# Altium schematic symbol library 74xx.SchLib: 276 symbols (part 2 of 3)
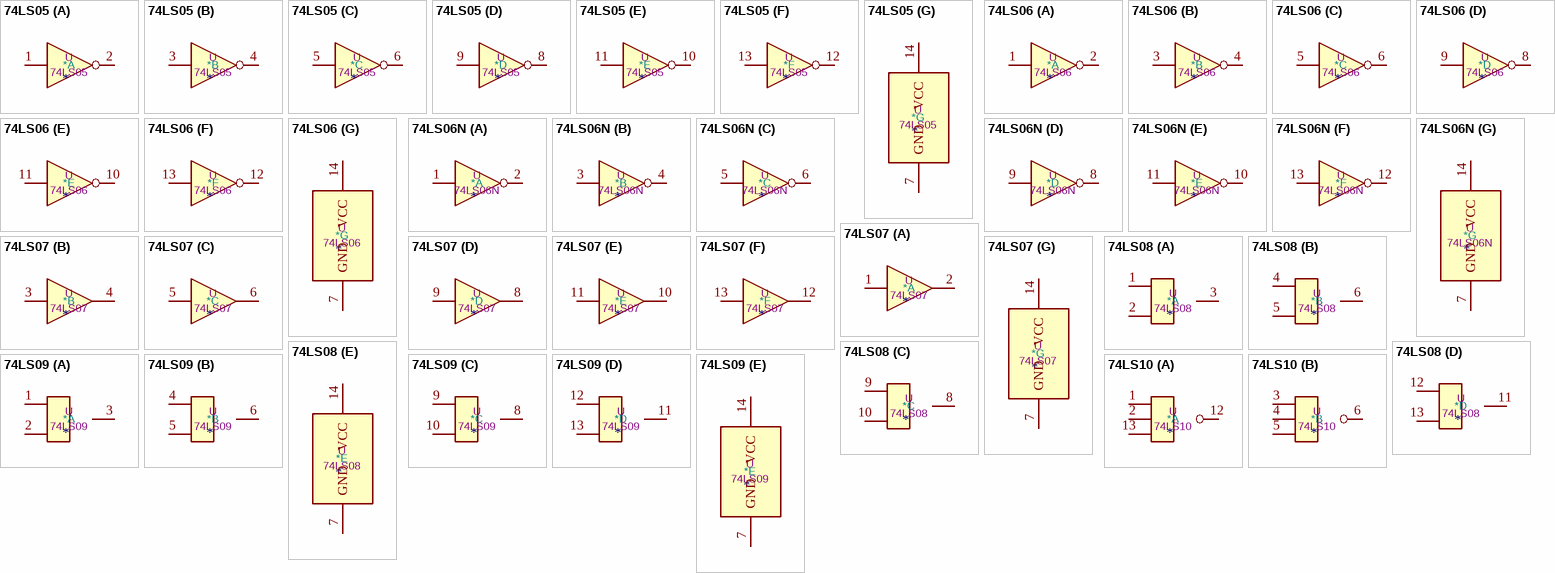
[diagram p15: symbols 74LS05 to 74LS10]

## 74LS06
designator *  value 74LS06  Reference: U
Inverter Open Collect; ki_keywords: TTL not inv OpenCol; ki_fp_filters: DIP*W7.62mm*; Datasheet: http://www.ti.com/lit/gpn/sn74LS06; Description_: Inverter Open Collect
part A pins: 1, 2
part B pins: 3, 4
part C pins: 5, 6
part D pins: 8, 9
part E pins: 10, 11
part F pins: 12, 13
part G pins: 7 GND, 14 VCC

## 74LS06N
designator *  value 74LS06N  Reference: U
Inverter Open Collect; ki_keywords: TTL not inv OpenCol; ki_fp_filters: DIP*W7.62mm*; Datasheet: http://www.ti.com/lit/gpn/sn74LS06N; Description_: Inverter Open Collect
part A pins: 1, 2
part B pins: 3, 4
part C pins: 5, 6
part D pins: 8, 9
part E pins: 10, 11
part F pins: 12, 13
part G pins: 7 GND, 14 VCC

## 74LS07
designator *  value 74LS07  Reference: U
Hex Buffers and Drivers With Open Collector High Voltage Outputs; ki_keywords: TTL hex buffer OpenCol; ki_fp_filters: SOIC*3.9x8.7mm*P1.27mm* TSSOP*4.4x5mm*P0.65mm* DIP*W7.62mm*; Datasheet: www.ti.com/lit/ds/symlink/sn74ls07.pdf; Description_: Hex Buffers and Drivers With Open Collector High Voltage Outputs
part A pins: 1, 2
part B pins: 3, 4
part C pins: 5, 6
part D pins: 8, 9
part E pins: 10, 11
part F pins: 12, 13
part G pins: 7 GND, 14 VCC

## 74LS08
designator *  value 74LS08  Reference: U
Quad And2; ki_keywords: TTL and2; ki_fp_filters: DIP*W7.62mm*; Datasheet: http://www.ti.com/lit/gpn/sn74LS08; Description_: Quad And2
part A pins: 1, 2, 3
part B pins: 4, 5, 6
part C pins: 8, 9, 10
part D pins: 11, 12, 13
part E pins: 7 GND, 14 VCC
1 alternate drawing of the same symbol

## 74LS09
designator *  value 74LS09  Reference: U
Quad 2-input AND Open Collect; ki_keywords: TTL and2 OpenCol; ki_fp_filters: DIP*W7.62mm*; Datasheet: http://www.ti.com/lit/gpn/sn74LS09; Description_: Quad 2-input AND Open Collect
part A pins: 1, 2, 3
part B pins: 4, 5, 6
part C pins: 8, 9, 10
part D pins: 11, 12, 13
part E pins: 7 GND, 14 VCC
1 alternate drawing of the same symbol

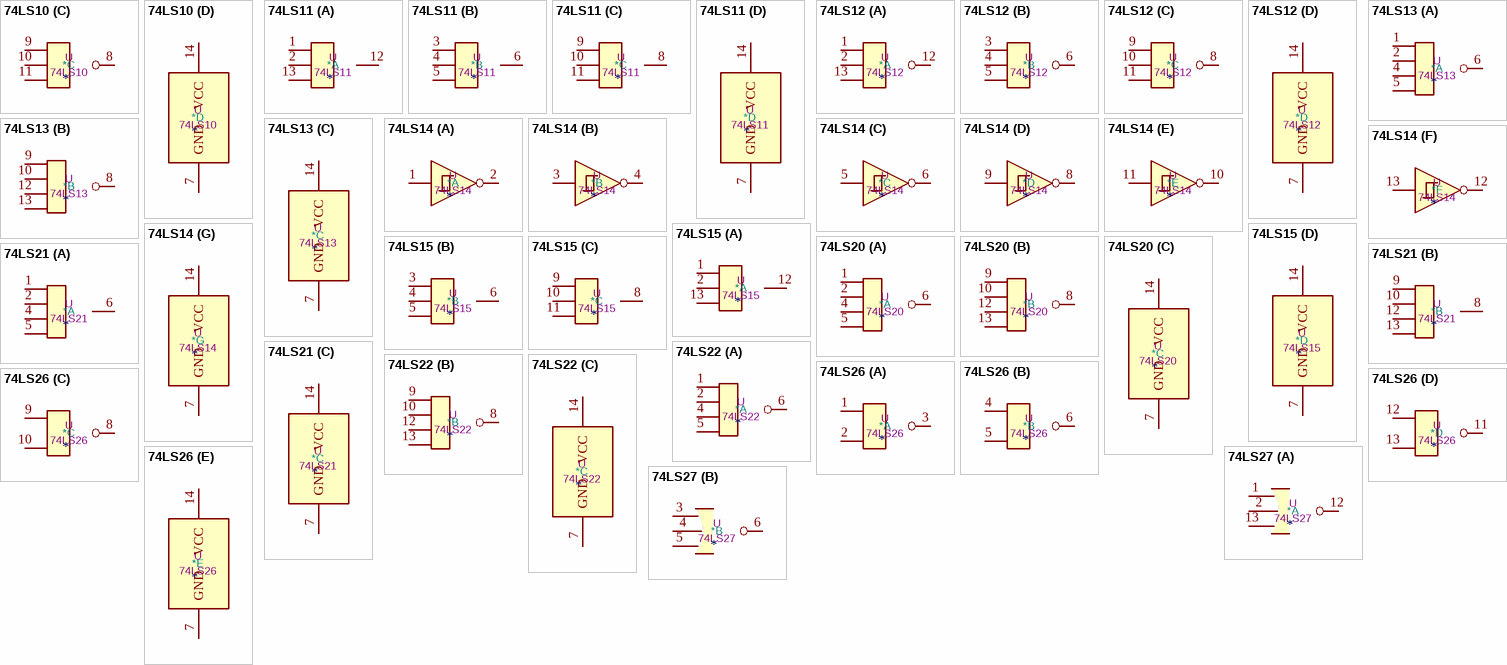
[diagram p6: symbols 74LS10 to 74LS27]

## 74LS10
designator *  value 74LS10  Reference: U
Triple 3-input NAND; ki_keywords: TTL Nand3; ki_fp_filters: DIP*W7.62mm*; Datasheet: http://www.ti.com/lit/gpn/sn74LS10; Description_: Triple 3-input NAND
part A pins: 1, 2, 12, 13
part B pins: 3, 4, 5, 6
part C pins: 8, 9, 10, 11
part D pins: 7 GND, 14 VCC
1 alternate drawing of the same symbol

## 74LS11
designator *  value 74LS11  Reference: U
Triple 3-input AND; ki_keywords: TTL And3; ki_fp_filters: DIP*W7.62mm*; Datasheet: http://www.ti.com/lit/gpn/sn74LS11; Description_: Triple 3-input AND
part A pins: 1, 2, 12, 13
part B pins: 3, 4, 5, 6
part C pins: 8, 9, 10, 11
part D pins: 7 GND, 14 VCC
1 alternate drawing of the same symbol

## 74LS12
designator *  value 74LS12  Reference: U
Triple 3-input NAND Open Collector; ki_keywords: TTL Nand3 OpenCol; ki_fp_filters: DIP*W7.62mm*; Datasheet: http://www.ti.com/lit/gpn/sn74LS12; Description_: Triple 3-input NAND Open Collector
part A pins: 1, 2, 12, 13
part B pins: 3, 4, 5, 6
part C pins: 8, 9, 10, 11
part D pins: 7 GND, 14 VCC
1 alternate drawing of the same symbol

## 74LS13
designator *  value 74LS13  Reference: U
Dual 4-input NAND Schmitt trigger; ki_keywords: TTL Nand4; ki_fp_filters: DIP*W7.62mm*; Datasheet: http://www.ti.com/lit/gpn/sn74LS13; Description_: Dual 4-input NAND Schmitt trigger
part A pins: 1, 2, 4, 5, 6
part B pins: 8, 9, 10, 12, 13
part C pins: 7 GND, 14 VCC
1 alternate drawing of the same symbol

## 74LS14
designator *  value 74LS14  Reference: U
Hex inverter schmitt trigger; ki_keywords: TTL not inverter; ki_fp_filters: DIP*W7.62mm*; Datasheet: http://www.ti.com/lit/gpn/sn74LS14; Description_: Hex inverter schmitt trigger
part A pins: 1, 2
part B pins: 3, 4
part C pins: 5, 6
part D pins: 8, 9
part E pins: 10, 11
part F pins: 12, 13
part G pins: 7 GND, 14 VCC

## 74LS15
designator *  value 74LS15  Reference: U
Triple 3-input AND; ki_keywords: TTL And3; ki_fp_filters: DIP*W7.62mm*; Datasheet: http://www.ti.com/lit/gpn/sn74LS15; Description_: Triple 3-input AND
part A pins: 1, 2, 12, 13
part B pins: 3, 4, 5, 6
part C pins: 8, 9, 10, 11
part D pins: 7 GND, 14 VCC
1 alternate drawing of the same symbol

## 74LS20
designator *  value 74LS20  Reference: U
Dual 4-input NAND; ki_keywords: TTL Nand4; ki_fp_filters: DIP?12*; Datasheet: http://www.ti.com/lit/gpn/sn74LS20; Description_: Dual 4-input NAND
part A pins: 1, 2, 4, 5, 6
part B pins: 8, 9, 10, 12, 13
part C pins: 7 GND, 14 VCC
1 alternate drawing of the same symbol

## 74LS21
designator *  value 74LS21  Reference: U
Dual 4-input AND; ki_keywords: TTL And4; ki_fp_filters: DIP?14*; Datasheet: http://www.ti.com/lit/gpn/sn74LS21; Description_: Dual 4-input AND
part A pins: 1, 2, 4, 5, 6
part B pins: 8, 9, 10, 12, 13
part C pins: 7 GND, 14 VCC
1 alternate drawing of the same symbol

## 74LS22
designator *  value 74LS22  Reference: U
Dual 4-input NAND Open Collector; ki_keywords: TTL Nand4 OpenColl; ki_fp_filters: DIP?12*; Datasheet: http://www.ti.com/lit/gpn/sn74LS22; Description_: Dual 4-input NAND Open Collector
part A pins: 1, 2, 4, 5, 6
part B pins: 8, 9, 10, 12, 13
part C pins: 7 GND, 14 VCC
1 alternate drawing of the same symbol

## 74LS26
designator *  value 74LS26  Reference: U
Quad 2-input NAND Open collector; ki_keywords: TTL Nand2 OpenCol; ki_fp_filters: DIP*W7.62mm*; Datasheet: http://www.ti.com/lit/gpn/sn74LS26; Description_: Quad 2-input NAND Open collector
part A pins: 1, 2, 3
part B pins: 4, 5, 6
part C pins: 8, 9, 10
part D pins: 11, 12, 13
part E pins: 7 GND, 14 VCC
1 alternate drawing of the same symbol

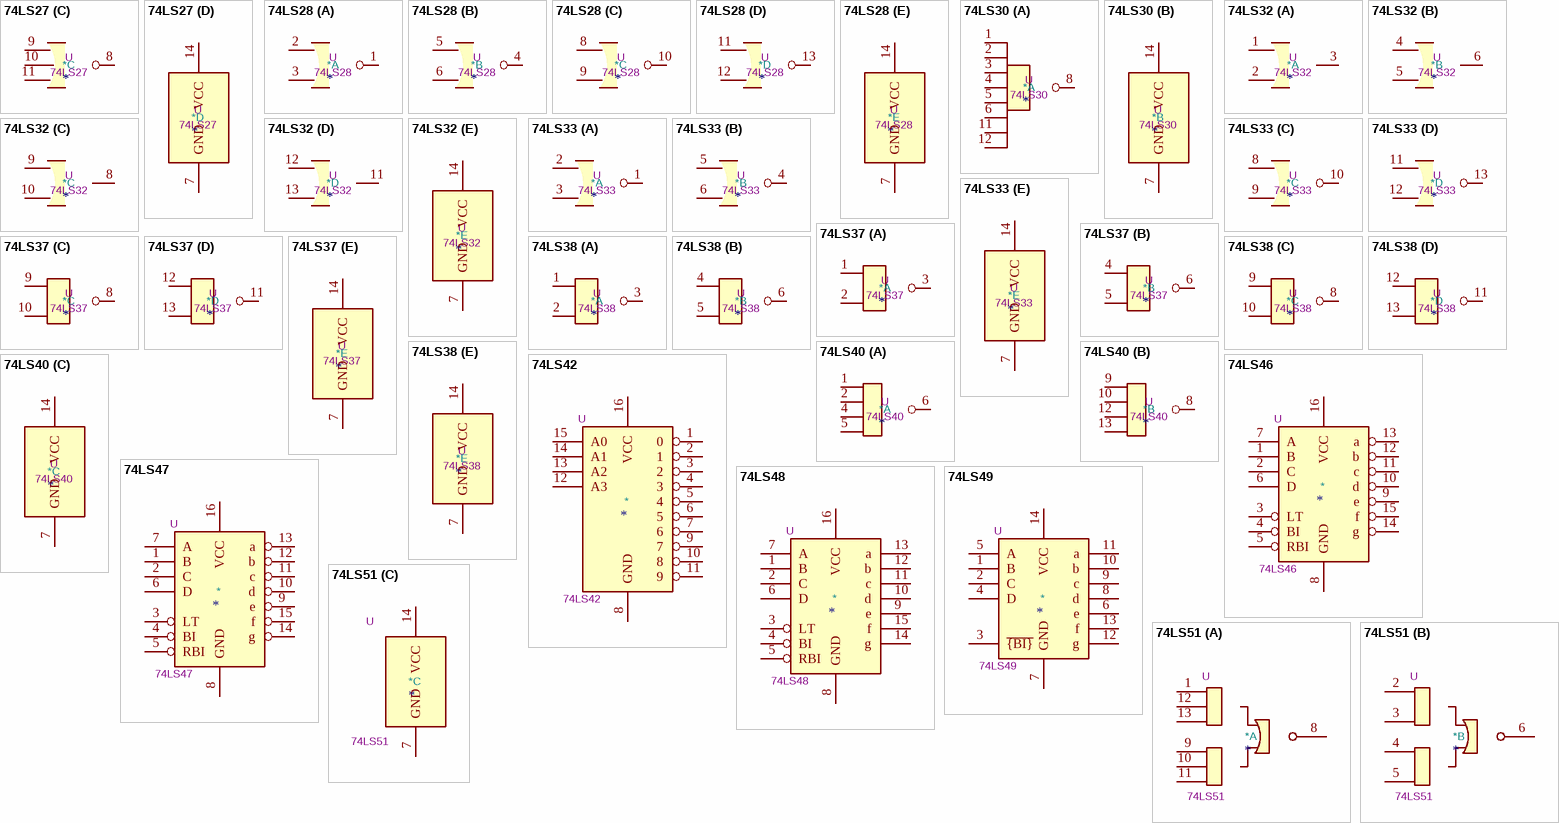
[diagram p7: symbols 74LS27 to 74LS51]

## 74LS27
designator *  value 74LS27  Reference: U
Triple 3-input NOR; ki_keywords: TTL Nor3; ki_fp_filters: DIP*W7.62mm*; Datasheet: http://www.ti.com/lit/gpn/sn74LS27; Description_: Triple 3-input NOR
part A pins: 1, 2, 12, 13
part B pins: 3, 4, 5, 6
part C pins: 8, 9, 10, 11
part D pins: 7 GND, 14 VCC
1 alternate drawing of the same symbol

## 74LS28
designator *  value 74LS28  Reference: U
quad 2-input NOR buffer NRND; ki_keywords: TTL Nor2 Buffer; ki_fp_filters: SO14* DIP*W7.62mm*; Datasheet: http://eeshop.unl.edu/pdf/74ls28.pdf; Description_: quad 2-input NOR buffer NRND
part A pins: 1, 2, 3
part B pins: 4, 5, 6
part C pins: 8, 9, 10
part D pins: 11, 12, 13
part E pins: 7 GND, 14 VCC
1 alternate drawing of the same symbol

## 74LS30
designator *  value 74LS30  Reference: U
8-input NAND; ki_keywords: TTL Nand8; ki_fp_filters: DIP*W7.62mm*; Datasheet: http://www.ti.com/lit/gpn/sn74LS30; Description_: 8-input NAND
part A pins: 1, 2, 3, 4, 5, 6, 8, 11, 12
part B pins: 7 GND, 14 VCC
1 alternate drawing of the same symbol

## 74LS32
designator *  value 74LS32  Reference: U
Quad 2-input OR; ki_keywords: TTL Or2; ki_fp_filters: DIP?14*; Datasheet: http://www.ti.com/lit/gpn/sn74LS32; Description_: Quad 2-input OR
part A pins: 1, 2, 3
part B pins: 4, 5, 6
part C pins: 8, 9, 10
part D pins: 11, 12, 13
part E pins: 7 GND, 14 VCC
1 alternate drawing of the same symbol

## 74LS33
designator *  value 74LS33  Reference: U
Quad 2-input NOR, Open collector; ki_keywords: TTL Nor2 OpenColl; ki_fp_filters: DIP*W7.62mm*; Datasheet: http://www.ti.com/lit/gpn/sn74LS33; Description_: Quad 2-input NOR, Open collector
part A pins: 1, 2, 3
part B pins: 4, 5, 6
part C pins: 8, 9, 10
part D pins: 11, 12, 13
part E pins: 7 GND, 14 VCC
1 alternate drawing of the same symbol

## 74LS37
designator *  value 74LS37  Reference: U
quad 2-input NAND buffer; ki_keywords: TTL nand 2-input buffer; ki_fp_filters: DIP*W7.62mm* SO14*; Datasheet: http://www.ti.com/lit/gpn/sn74ls37; Description_: quad 2-input NAND buffer
part A pins: 1, 2, 3
part B pins: 4, 5, 6
part C pins: 8, 9, 10
part D pins: 11, 12, 13
part E pins: 7 GND, 14 VCC
1 alternate drawing of the same symbol

## 74LS38
designator *  value 74LS38  Reference: U
Quad Buffer 2-input NAND Open collector; ki_keywords: TTL Nand2 OpenCol Buffer; ki_fp_filters: DIP*W7.62mm*; Datasheet: http://www.ti.com/lit/gpn/sn74LS38; Description_: Quad Buffer 2-input NAND Open collector
part A pins: 1, 2, 3
part B pins: 4, 5, 6
part C pins: 8, 9, 10
part D pins: 11, 12, 13
part E pins: 7 GND, 14 VCC
1 alternate drawing of the same symbol

## 74LS40
designator *  value 74LS40  Reference: U
Dual 4-input NAND; ki_keywords: TTL Nand4; ki_fp_filters: DIP?12*; Datasheet: http://www.ti.com/lit/gpn/sn74LS40; Description_: Dual 4-input NAND
part A pins: 1, 2, 4, 5, 6
part B pins: 8, 9, 10, 12, 13
part C pins: 7 GND, 14 VCC
1 alternate drawing of the same symbol

## 74LS42
designator *  value 74LS42  Reference: U
4 to 10 line Decoder; ki_keywords: TTL DECOD DECOD10; ki_fp_filters: DIP?16*; Datasheet: http://www.ti.com/lit/gpn/sn74LS42; Description_: 4 to 10 line Decoder
pins: 1 0, 2 1, 3 2, 4 3, 5 4, 6 5, 7 6, 8 GND, 9 7, 10 8, 11 9, 12 A3, 13 A2, 14 A1, 15 A0, 16 VCC

## 74LS46
designator *  value 74LS46  Reference: U
BCD to 7-segment Driver, Open Collector, 15V outputs; ki_keywords: TTL DECOD DECOD7 OpenCol; ki_fp_filters: DIP?16*; Datasheet: http://www.ti.com/lit/gpn/sn74LS46; Description_: BCD to 7-segment Driver, Open Collector, 15V outputs
pins: 1 B, 2 C, 3 LT, 4 BI, 5 RBI, 6 D, 7 A, 8 GND, 9 e, 10 d, 11 c, 12 b, 13 a, 14 g, 15 f, 16 VCC

## 74LS47
designator *  value 74LS47  Reference: U
BCD to 7-segment Driver, Open Collector, 30V outputs; ki_keywords: TTL DECOD DECOD7 OpenCol; ki_fp_filters: DIP?16*; Datasheet: http://www.ti.com/lit/gpn/sn74LS47; Description_: BCD to 7-segment Driver, Open Collector, 30V outputs
pins: 1 B, 2 C, 3 LT, 4 BI, 5 RBI, 6 D, 7 A, 8 GND, 9 e, 10 d, 11 c, 12 b, 13 a, 14 g, 15 f, 16 VCC

## 74LS48
designator *  value 74LS48  Reference: U
BCD to 7-segment Decoder/driver, Active High outputs; ki_keywords: TTL DECOD DECOD7; ki_fp_filters: DIP?16*; Datasheet: http://www.ti.com/lit/gpn/sn74LS48; Description_: BCD to 7-segment Decoder/driver, Active High outputs
pins: 1 B, 2 C, 3 LT, 4 BI, 5 RBI, 6 D, 7 A, 8 GND, 9 e, 10 d, 11 c, 12 b, 13 a, 14 g, 15 f, 16 VCC

## 74LS49
designator *  value 74LS49  Reference: U
BCD to 7-segment decoder/driver, Open collector; ki_keywords: TTL DECOD DECOD7 OpenCol; ki_fp_filters: DIP*W7.62mm*; Datasheet: http://www.ti.com/lit/gpn/sn74ls47; Description_: BCD to 7-segment decoder/driver, Open collector
pins: 1 B, 2 C, 3 ~{{BI}}, 4 D, 5 A, 6 e, 7 GND, 8 d, 9 c, 10 b, 11 a, 12 g, 13 f, 14 VCC

## 74LS51
designator *  value 74LS51  Reference: U
Dual 3- and 2-input AND-NOR ( S = /(AB[C] + DE[F]) ); ki_keywords: TTL ANDNOR; ki_fp_filters: DIP*W7.62mm*; Datasheet: http://www.ti.com/lit/ds/symlink/sn74ls51.pdf; Description_: Dual 3- and 2-input AND-NOR ( S = /(AB[C] + DE[F]) )
part A pins: 1, 8, 9, 10, 11, 12, 13
part B pins: 2, 3, 4, 5, 6
part C pins: 7 GND, 14 VCC

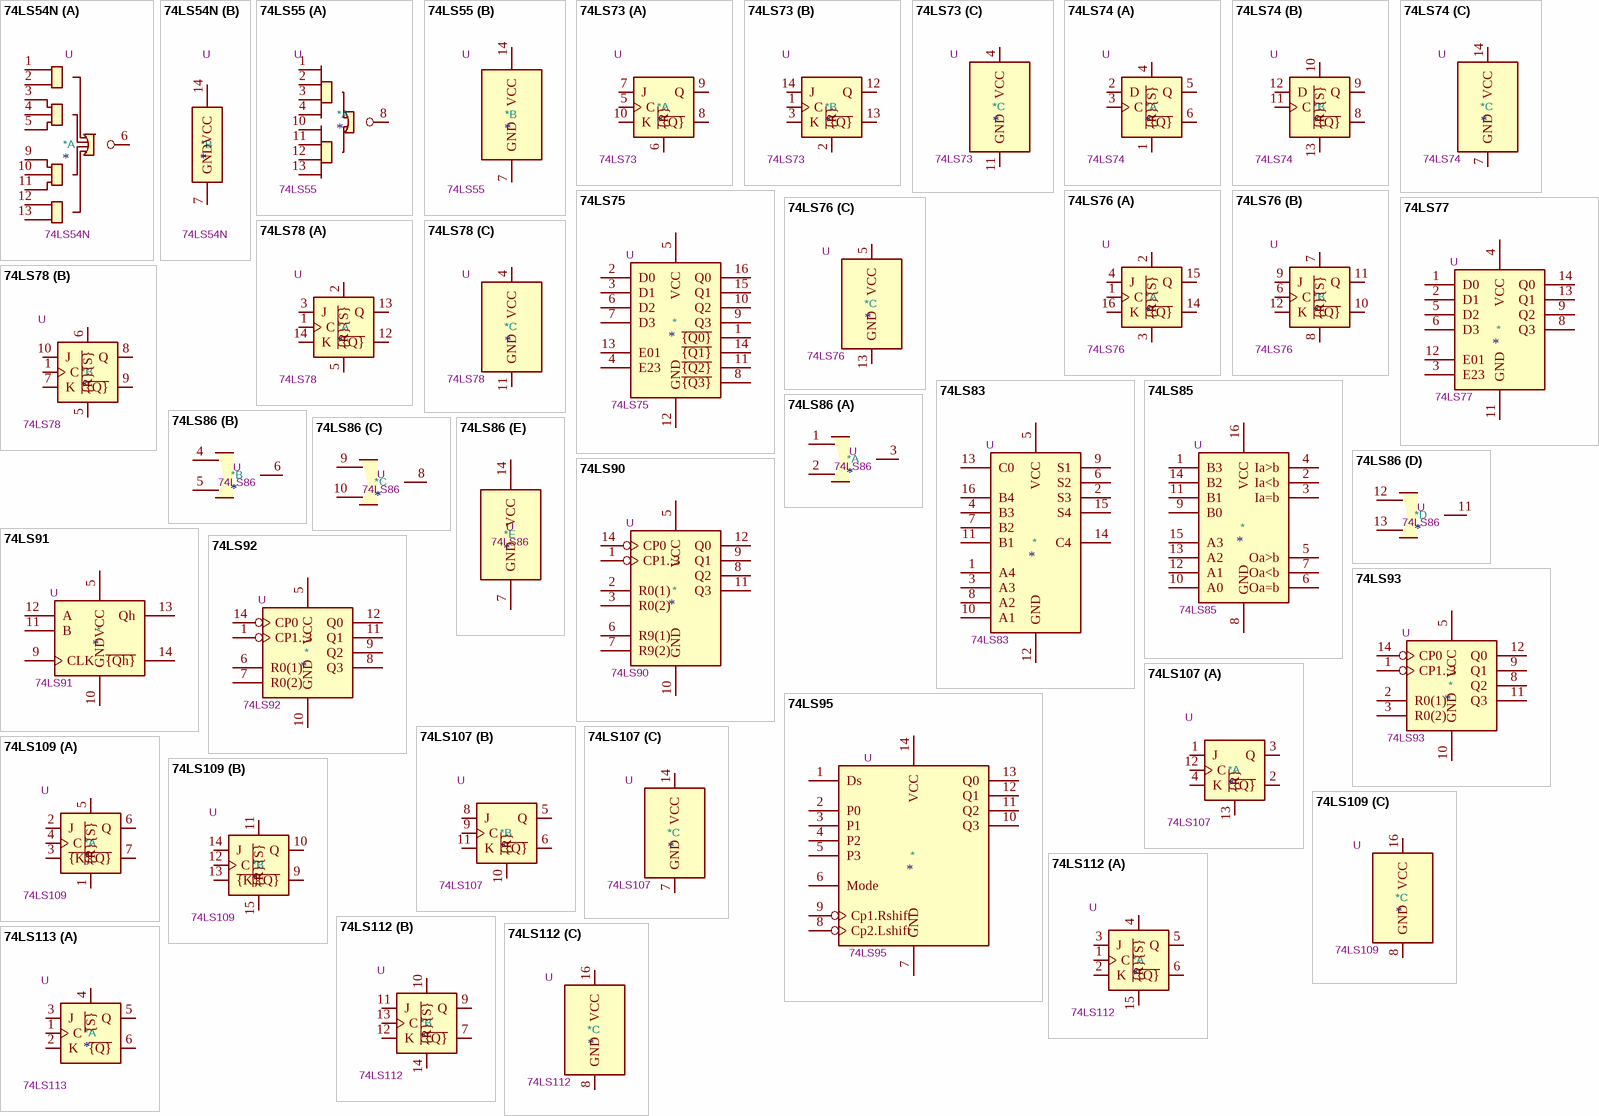
[diagram p8: symbols 74LS54N to 74LS113]

## 74LS54N
designator *  value 74LS54N  Reference: U
And-Nor (Y = /(AB + CDE + FGH + IJ) ), DIP-14; ki_keywords: TTL ANDNOR; ki_fp_filters: DIP*W7.62mm*; Datasheet: https://www.ti.com/lit/ds/symlink/sn54ls54.pdf; Description_: And-Nor (Y = /(AB + CDE + FGH + IJ) ), DIP-14
part A pins: 1, 2, 3, 4, 5, 6, 9, 10, 11, 12, 13
part B pins: 7 GND, 14 VCC

## 74LS55
designator *  value 74LS55  Reference: U
AND-NOR ( S = / (ABCD + EFGH) ); ki_keywords: TTL ANDNOR; ki_fp_filters: DIP*W7.62mm*; Datasheet: http://www.ti.com/lit/gpn/sn74LS55; Description_: AND-NOR ( S = / (ABCD + EFGH) )
part A pins: 1, 2, 3, 4, 8, 10, 11, 12, 13
part B pins: 7 GND, 14 VCC

## 74LS73
designator *  value 74LS73  Reference: U
Dual JK Flip-Flop, reset; ki_keywords: TTL JK JKFF; ki_fp_filters: DIP*W7.62mm*; Datasheet: http://www.ti.com/lit/gpn/sn74LS73; Description_: Dual JK Flip-Flop, reset
part A pins: 5 C, 6 ~{{R}}, 7 J, 8 ~{{Q}}, 9 Q, 10 K
part B pins: 1 C, 2 ~{{R}}, 3 K, 12 Q, 13 ~{{Q}}, 14 J
part C pins: 4 VCC, 11 GND

## 74LS74
designator *  value 74LS74  Reference: U
Dual D Flip-flop, Set & Reset; ki_keywords: TTL DFF; ki_fp_filters: DIP*W7.62mm*; Datasheet: 74xx/74hc_hct74.pdf; Description_: Dual D Flip-flop, Set & Reset
part A pins: 1 ~{{R}}, 2 D, 3 C, 4 ~{{S}}, 5 Q, 6 ~{{Q}}
part B pins: 8 ~{{Q}}, 9 Q, 10 ~{{S}}, 11 C, 12 D, 13 ~{{R}}
part C pins: 7 GND, 14 VCC

## 74LS75
designator *  value 74LS75  Reference: U
4-bit Latch; ki_keywords: TTL DFF Latch; ki_fp_filters: DIP?16*; Datasheet: http://www.ti.com/lit/gpn/sn74LS75; Description_: 4-bit Latch
pins: 1 ~{{Q0}}, 2 D0, 3 D1, 4 E23, 5 VCC, 6 D2, 7 D3, 8 ~{{Q3}}, 9 Q3, 10 Q2, 11 ~{{Q2}}, 12 GND, 13 E01, 14 ~{{Q1}}, 15 Q1, 16 Q0

## 74LS76
designator *  value 74LS76  Reference: U
Dual JK Flip-flop, Set & Reset; ki_keywords: TTL JK JKFF; ki_fp_filters: DIP?16*; Datasheet: http://www.ti.com/lit/gpn/sn74LS76; Description_: Dual JK Flip-flop, Set & Reset
part A pins: 1 C, 2 ~{{S}}, 3 ~{{R}}, 4 J, 14 ~{{Q}}, 15 Q, 16 K
part B pins: 6 C, 7 ~{{S}}, 8 ~{{R}}, 9 J, 10 ~{{Q}}, 11 Q, 12 K
part C pins: 5 VCC, 13 GND

## 74LS77
designator *  value 74LS77  Reference: U
4-bit Latch; ki_keywords: TTL DFF Latch; ki_fp_filters: DIP?12*; Datasheet: http://www.ti.com/lit/gpn/sn74LS77; Description_: 4-bit Latch
pins: 1 D0, 2 D1, 3 E23, 4 VCC, 5 D2, 6 D3, 8 Q3, 9 Q2, 11 GND, 12 E01, 13 Q1, 14 Q0

## 74LS78
designator *  value 74LS78  Reference: U
Dual JK Flip-flop, Set, Common clock & reset; ki_keywords: TTL JK JKFF; ki_fp_filters: DIP*W7.62mm*; Datasheet: http://www.ti.com/lit/gpn/sn74LS78; Description_: Dual JK Flip-flop, Set, Common clock & reset
part A pins: 1 C, 2 ~{{S}}, 3 J, 5 ~{{R}}, 12 ~{{Q}}, 13 Q, 14 K
part B pins: 1 C, 5 ~{{R}}, 6 ~{{S}}, 7 K, 8 Q, 9 ~{{Q}}, 10 J
part C pins: 4 VCC, 11 GND

## 74LS83
designator *  value 74LS83  Reference: U
4-bit Full Adder; ki_keywords: TTL ADD ARITH ALU; ki_fp_filters: DIP?16*; Datasheet: http://www.ti.com/lit/gpn/sn74LS83; Description_: 4-bit Full Adder
pins: 1 A4, 2 S3, 3 A3, 4 B3, 5 VCC, 6 S2, 7 B2, 8 A2, 9 S1, 10 A1, 11 B1, 12 GND, 13 C0, 14 C4, 15 S4, 16 B4

## 74LS85
designator *  value 74LS85  Reference: U
4-bit Comparator; ki_keywords: TTL COMP ARITH; ki_fp_filters: DIP?16*; Datasheet: http://www.ti.com/lit/gpn/sn74LS85; Description_: 4-bit Comparator
pins: 1 B3, 2 Ia<b, 3 Ia=b, 4 Ia>b, 5 Oa>b, 6 Oa=b, 7 Oa<b, 8 GND, 9 B0, 10 A0, 11 B1, 12 A1, 13 A2, 14 B2, 15 A3, 16 VCC

## 74LS86
designator *  value 74LS86  Reference: U
Quad 2-input XOR; ki_keywords: TTL XOR2; ki_fp_filters: DIP*W7.62mm*; Datasheet: 74xx/74ls86.pdf; Description_: Quad 2-input XOR
part A pins: 1, 2, 3
part B pins: 4, 5, 6
part C pins: 8, 9, 10
part D pins: 11, 12, 13
part E pins: 7 GND, 14 VCC

## 74LS90
designator *  value 74LS90  Reference: U
BCD Counter ( div 2 & div 5 ); ki_keywords: TTL CNT CNT4; ki_fp_filters: DIP?12*; Datasheet: http://www.ti.com/lit/gpn/sn74LS90; Description_: BCD Counter ( div 2 & div 5 )
pins: 1 CP1..3, 2 R0(1), 3 R0(2), 5 VCC, 6 R9(1), 7 R9(2), 8 Q2, 9 Q1, 10 GND, 11 Q3, 12 Q0, 14 CP0

## 74LS91
designator *  value 74LS91  Reference: U
8-bit Serial Register; ki_keywords: TTL SR SR8; ki_fp_filters: DIP*W7.62mm*; Datasheet: http://www.ti.com/lit/gpn/sn74LS91; Description_: 8-bit Serial Register
pins: 5 VCC, 9 CLK, 10 GND, 11 B, 12 A, 13 Qh, 14 ~{{Qh}}

## 74LS92
designator *  value 74LS92  Reference: U
Divide by 12 counter; ki_keywords: TTL CNT CNT4; ki_fp_filters: DIP*W7.62mm*; Datasheet: http://www.ti.com/lit/gpn/sn74LS92; Description_: Divide by 12 counter
pins: 1 CP1..3, 5 VCC, 6 R0(1), 7 R0(2), 8 Q3, 9 Q2, 10 GND, 11 Q1, 12 Q0, 14 CP0

## 74LS93
designator *  value 74LS93  Reference: U
Divide by 2 & 8 counter; ki_keywords: TTL CNT CNT4; ki_fp_filters: DIP*W7.62mm*; Datasheet: http://www.ti.com/lit/gpn/sn74LS93; Description_: Divide by 2 & 8 counter
pins: 1 CP1..3, 2 R0(1), 3 R0(2), 5 VCC, 8 Q2, 9 Q1, 10 GND, 11 Q3, 12 Q0, 14 CP0

## 74LS95
designator *  value 74LS95  Reference: U
Shift Register 5-bit (in/out); ki_keywords: TTL SR SR4; ki_fp_filters: DIP*W7.62mm*; Datasheet: http://www.ti.com/lit/gpn/sn74LS95; Description_: Shift Register 5-bit (in/out)
pins: 1 Ds, 2 P0, 3 P1, 4 P2, 5 P3, 6 Mode, 7 GND, 8 Cp2.Lshift, 9 Cp1.Rshift, 10 Q3, 11 Q2, 12 Q1, 13 Q0, 14 VCC

## 74LS107
designator *  value 74LS107  Reference: U
Dual JK Flip-Flop, reset; ki_keywords: TTL JK; ki_fp_filters: DIP*W7.62mm*; Datasheet: http://www.ti.com/lit/gpn/sn74LS107; Description_: Dual JK Flip-Flop, reset
part A pins: 1 J, 2 ~{{Q}}, 3 Q, 4 K, 12 C, 13 ~{{R}}
part B pins: 5 Q, 6 ~{{Q}}, 8 J, 9 C, 10 ~{{R}}, 11 K
part C pins: 7 GND, 14 VCC

## 74LS109
designator *  value 74LS109  Reference: U
Dual JK Flip-Flop, Set & Reset; ki_keywords: TTL JK; ki_fp_filters: DIP*W7.62mm*; Datasheet: http://www.ti.com/lit/gpn/sn74LS109; Description_: Dual JK Flip-Flop, Set & Reset
part A pins: 1 ~{{R}}, 2 J, 3 ~{{K}}, 4 C, 5 ~{{S}}, 6 Q, 7 ~{{Q}}
part B pins: 9 ~{{Q}}, 10 Q, 11 ~{{S}}, 12 C, 13 ~{{K}}, 14 J, 15 ~{{R}}
part C pins: 8 GND, 16 VCC

## 74LS112
designator *  value 74LS112  Reference: U
dual JK Flip-Flop, Set & Reset; ki_keywords: TTL JK; ki_fp_filters: DIP?16*; Datasheet: http://www.ti.com/lit/gpn/sn74LS112; Description_: dual JK Flip-Flop, Set & Reset
part A pins: 1 C, 2 K, 3 J, 4 ~{{S}}, 5 Q, 6 ~{{Q}}, 15 ~{{R}}
part B pins: 7 ~{{Q}}, 9 Q, 10 ~{{S}}, 11 J, 12 K, 13 C, 14 ~{{R}}
part C pins: 8 GND, 16 VCC

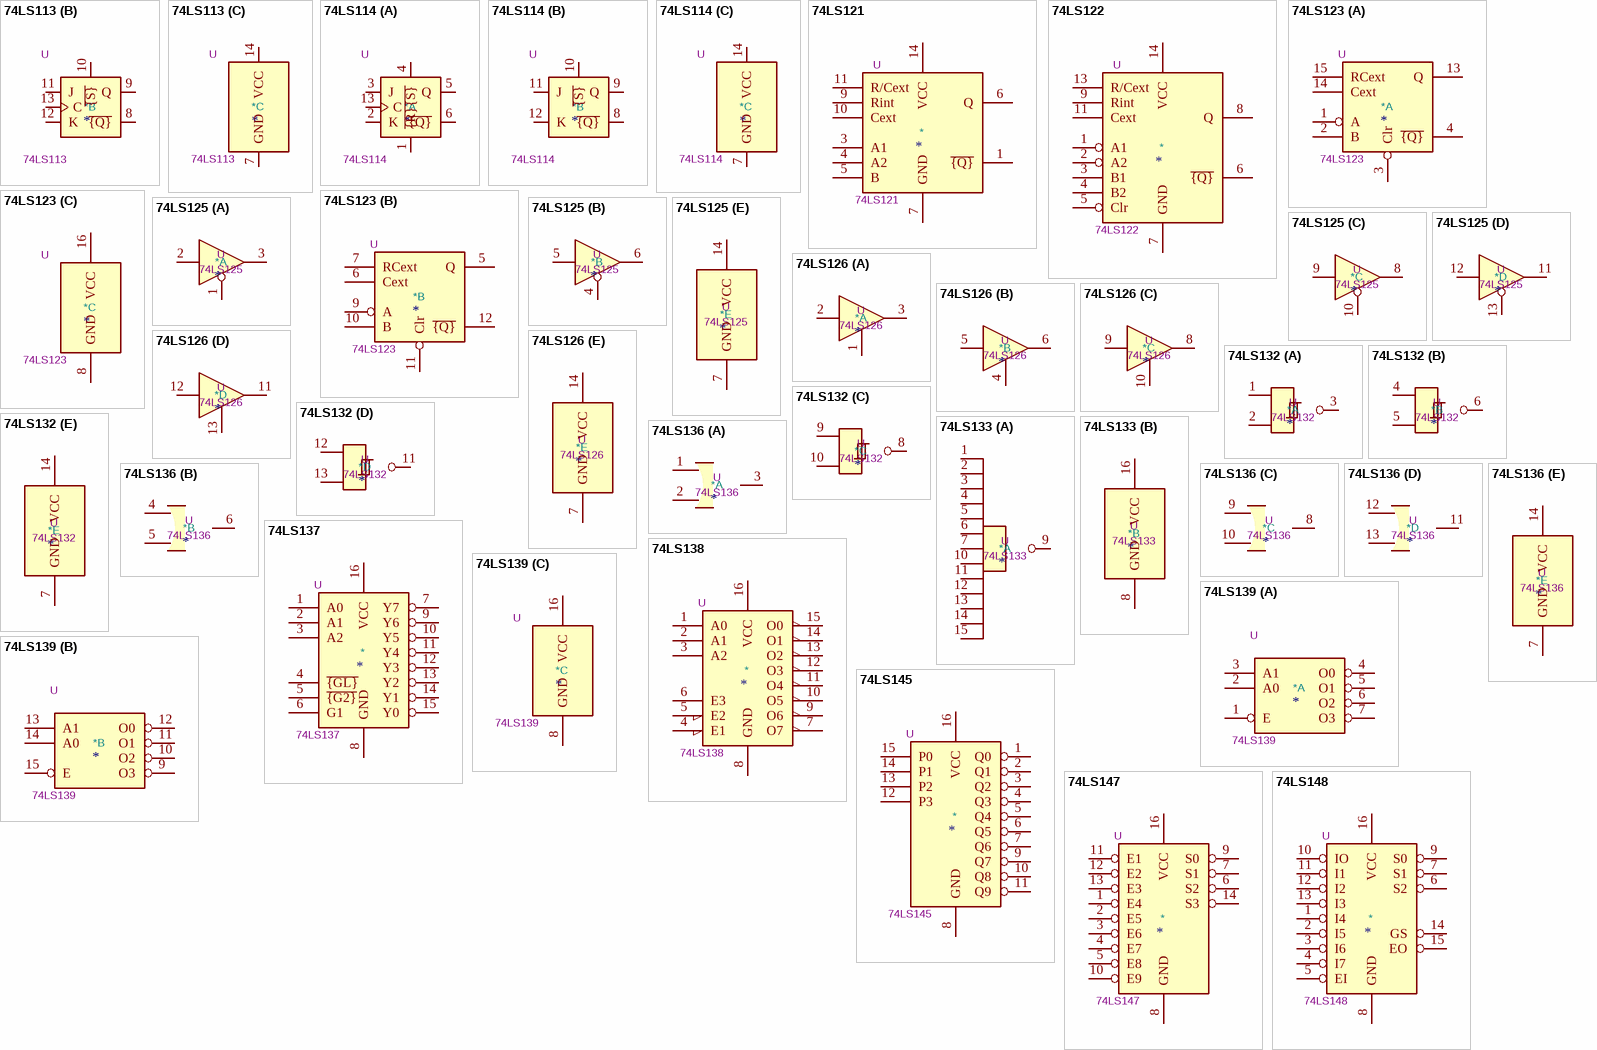
[diagram p9: symbols 74LS113 to 74LS148]

## 74LS113
designator *  value 74LS113  Reference: U
dual JK flip-flop, Set; ki_keywords: TTL JK; ki_fp_filters: DIP*W7.62mm*; Datasheet: http://www.ti.com/lit/gpn/sn74LS113; Description_: dual JK flip-flop, Set
part A pins: 1 C, 2 K, 3 J, 4 ~{{S}}, 5 Q, 6 ~{{Q}}
part B pins: 8 ~{{Q}}, 9 Q, 10 ~{{S}}, 11 J, 12 K, 13 C
part C pins: 7 GND, 14 VCC

## 74LS114
designator *  value 74LS114  Reference: U
Dual JK flip-flop, common Clock & Reset, Set; ki_keywords: TTL JK; ki_fp_filters: DIP*W7.62mm*; Datasheet: http://www.ti.com/lit/gpn/sn74LS114; Description_: Dual JK flip-flop, common Clock & Reset, Set
part A pins: 1 ~{{R}}, 2 K, 3 J, 4 ~{{S}}, 5 Q, 6 ~{{Q}}, 13 C
part B pins: 8 ~{{Q}}, 9 Q, 10 ~{{S}}, 11 J, 12 K
part C pins: 7 GND, 14 VCC

## 74LS121
designator *  value 74LS121  Reference: U
monostable multivibrator with Schmitt-trigger inputs; ki_fp_filters: DIP*W7.62mm*; Datasheet: http://www.ti.com/lit/gpn/sn74121; Description_: monostable multivibrator with Schmitt-trigger inputs; ki_keywords: monostable
pins: 1 ~{{Q}}, 3 A1, 4 A2, 5 B, 6 Q, 7 GND, 9 Rint, 10 Cext, 11 R/Cext, 14 VCC

## 74LS122
designator *  value 74LS122  Reference: U
Retriggerable Monostable; ki_keywords: TTL monostable; ki_fp_filters: DIP*W7.62mm*; Datasheet: http://www.ti.com/lit/gpn/sn74LS122; Description_: Retriggerable Monostable
pins: 1 A1, 2 A2, 3 B1, 4 B2, 5 Clr, 6 ~{{Q}}, 7 GND, 8 Q, 9 Rint, 11 Cext, 13 R/Cext, 14 VCC

## 74LS123
designator *  value 74LS123  Reference: U
Dual retriggerable Monostable; ki_keywords: TTL monostable; ki_fp_filters: DIP?16*; Datasheet: http://www.ti.com/lit/gpn/sn74LS123; Description_: Dual retriggerable Monostable
part A pins: 1 A, 2 B, 3 Clr, 4 ~{{Q}}, 13 Q, 14 Cext, 15 RCext
part B pins: 5 Q, 6 Cext, 7 RCext, 9 A, 10 B, 11 Clr, 12 ~{{Q}}
part C pins: 8 GND, 16 VCC

## 74LS125
designator *  value 74LS125  Reference: U
Quad buffer 3-State outputs; ki_keywords: TTL buffer 3State; ki_fp_filters: DIP*W7.62mm*; Datasheet: http://www.ti.com/lit/gpn/sn74LS125; Description_: Quad buffer 3-State outputs
part A pins: 1, 2, 3
part B pins: 4, 5, 6
part C pins: 8, 9, 10
part D pins: 11, 12, 13
part E pins: 7 GND, 14 VCC

## 74LS126
designator *  value 74LS126  Reference: U
Quad buffer 3-State outputs; ki_keywords: TTL Buffer 3State; ki_fp_filters: DIP*W7.62mm*; Datasheet: http://www.ti.com/lit/gpn/sn74LS126; Description_: Quad buffer 3-State outputs
part A pins: 1, 2, 3
part B pins: 4, 5, 6
part C pins: 8, 9, 10
part D pins: 11, 12, 13
part E pins: 7 GND, 14 VCC

## 74LS132
designator *  value 74LS132  Reference: U
Quad 2-input NAND Schmitt trigger; ki_keywords: TTL Nand2; ki_fp_filters: DIP*W7.62mm*; Datasheet: http://www.ti.com/lit/gpn/sn74LS132; Description_: Quad 2-input NAND Schmitt trigger
part A pins: 1, 2, 3
part B pins: 4, 5, 6
part C pins: 8, 9, 10
part D pins: 11, 12, 13
part E pins: 7 GND, 14 VCC
1 alternate drawing of the same symbol

## 74LS133
designator *  value 74LS133  Reference: U
NAND 13-input; ki_keywords: TTL Nand13; ki_fp_filters: DIP?16*; Datasheet: http://www.ti.com/lit/gpn/sn74LS133; Description_: NAND 13-input
part A pins: 1, 2, 3, 4, 5, 6, 7, 9, 10, 11, 12, 13, 14, 15
part B pins: 8 GND, 16 VCC
1 alternate drawing of the same symbol

## 74LS136
designator *  value 74LS136  Reference: U
Quad 2-input XOR Open Collector; ki_keywords: TTL XOR2 OpenCol; ki_fp_filters: DIP*W7.62mm*; Datasheet: http://www.ti.com/lit/ds/symlink/sn54ls136.pdf; Description_: Quad 2-input XOR Open Collector
part A pins: 1, 2, 3
part B pins: 4, 5, 6
part C pins: 8, 9, 10
part D pins: 11, 12, 13
part E pins: 7 GND, 14 VCC

## 74LS137
designator *  value 74LS137  Reference: U
Decoder 3 to 8, address latches; ki_keywords: TTL DECOD8 DECOD; ki_fp_filters: DIP?16*; Datasheet: http://www.ti.com/lit/gpn/sn74LS137; Description_: Decoder 3 to 8, address latches
pins: 1 A0, 2 A1, 3 A2, 4 ~{{GL}}, 5 ~{{G2}}, 6 G1, 7 Y7, 8 GND, 9 Y6, 10 Y5, 11 Y4, 12 Y3, 13 Y2, 14 Y1, 15 Y0, 16 VCC

## 74LS138
designator *  value 74LS138  Reference: U
Decoder 3 to 8 active low outputs; ki_keywords: TTL DECOD DECOD8; ki_fp_filters: DIP?16*; Datasheet: http://www.ti.com/lit/gpn/sn74LS138; Description_: Decoder 3 to 8 active low outputs
pins: 1 A0, 2 A1, 3 A2, 4 E1, 5 E2, 6 E3, 7 O7, 8 GND, 9 O6, 10 O5, 11 O4, 12 O3, 13 O2, 14 O1, 15 O0, 16 VCC

## 74LS139
designator *  value 74LS139  Reference: U
Dual Decoder 1 of 4, Active low outputs; ki_keywords: TTL DECOD4; ki_fp_filters: DIP?16*; Datasheet: http://www.ti.com/lit/ds/symlink/sn74ls139a.pdf; Description_: Dual Decoder 1 of 4, Active low outputs
part A pins: 1 E, 2 A0, 3 A1, 4 O0, 5 O1, 6 O2, 7 O3
part B pins: 9 O3, 10 O2, 11 O1, 12 O0, 13 A1, 14 A0, 15 E
part C pins: 8 GND, 16 VCC

## 74LS145
designator *  value 74LS145  Reference: U
Decoder 1 to 10, Open Collector; ki_keywords: TTL DECOD10 OpenColl; ki_fp_filters: DIP?16*; Datasheet: http://www.ti.com/lit/gpn/sn74LS145; Description_: Decoder 1 to 10, Open Collector
pins: 1 Q0, 2 Q1, 3 Q2, 4 Q3, 5 Q4, 6 Q5, 7 Q6, 8 GND, 9 Q7, 10 Q8, 11 Q9, 12 P3, 13 P2, 14 P1, 15 P0, 16 VCC

## 74LS147
designator *  value 74LS147  Reference: U
Priority Encoder, 10 to 4; ki_keywords: TTL ENCOD; ki_fp_filters: DIP?16*; Datasheet: http://www.ti.com/lit/gpn/sn74LS147; Description_: Priority Encoder, 10 to 4
pins: 1 E4, 2 E5, 3 E6, 4 E7, 5 E8, 6 S2, 7 S1, 8 GND, 9 S0, 10 E9, 11 E1, 12 E2, 13 E3, 14 S3, 16 VCC

## 74LS148
designator *  value 74LS148  Reference: U
Priority Encoder 3 to 8 cascadable; ki_keywords: TTL ENCOD; ki_fp_filters: DIP?16*; Datasheet: http://www.ti.com/lit/gpn/sn74LS148; Description_: Priority Encoder 3 to 8 cascadable
pins: 1 I4, 2 I5, 3 I6, 4 I7, 5 EI, 6 S2, 7 S1, 8 GND, 9 S0, 10 IO, 11 I1, 12 I2, 13 I3, 14 GS, 15 EO, 16 VCC

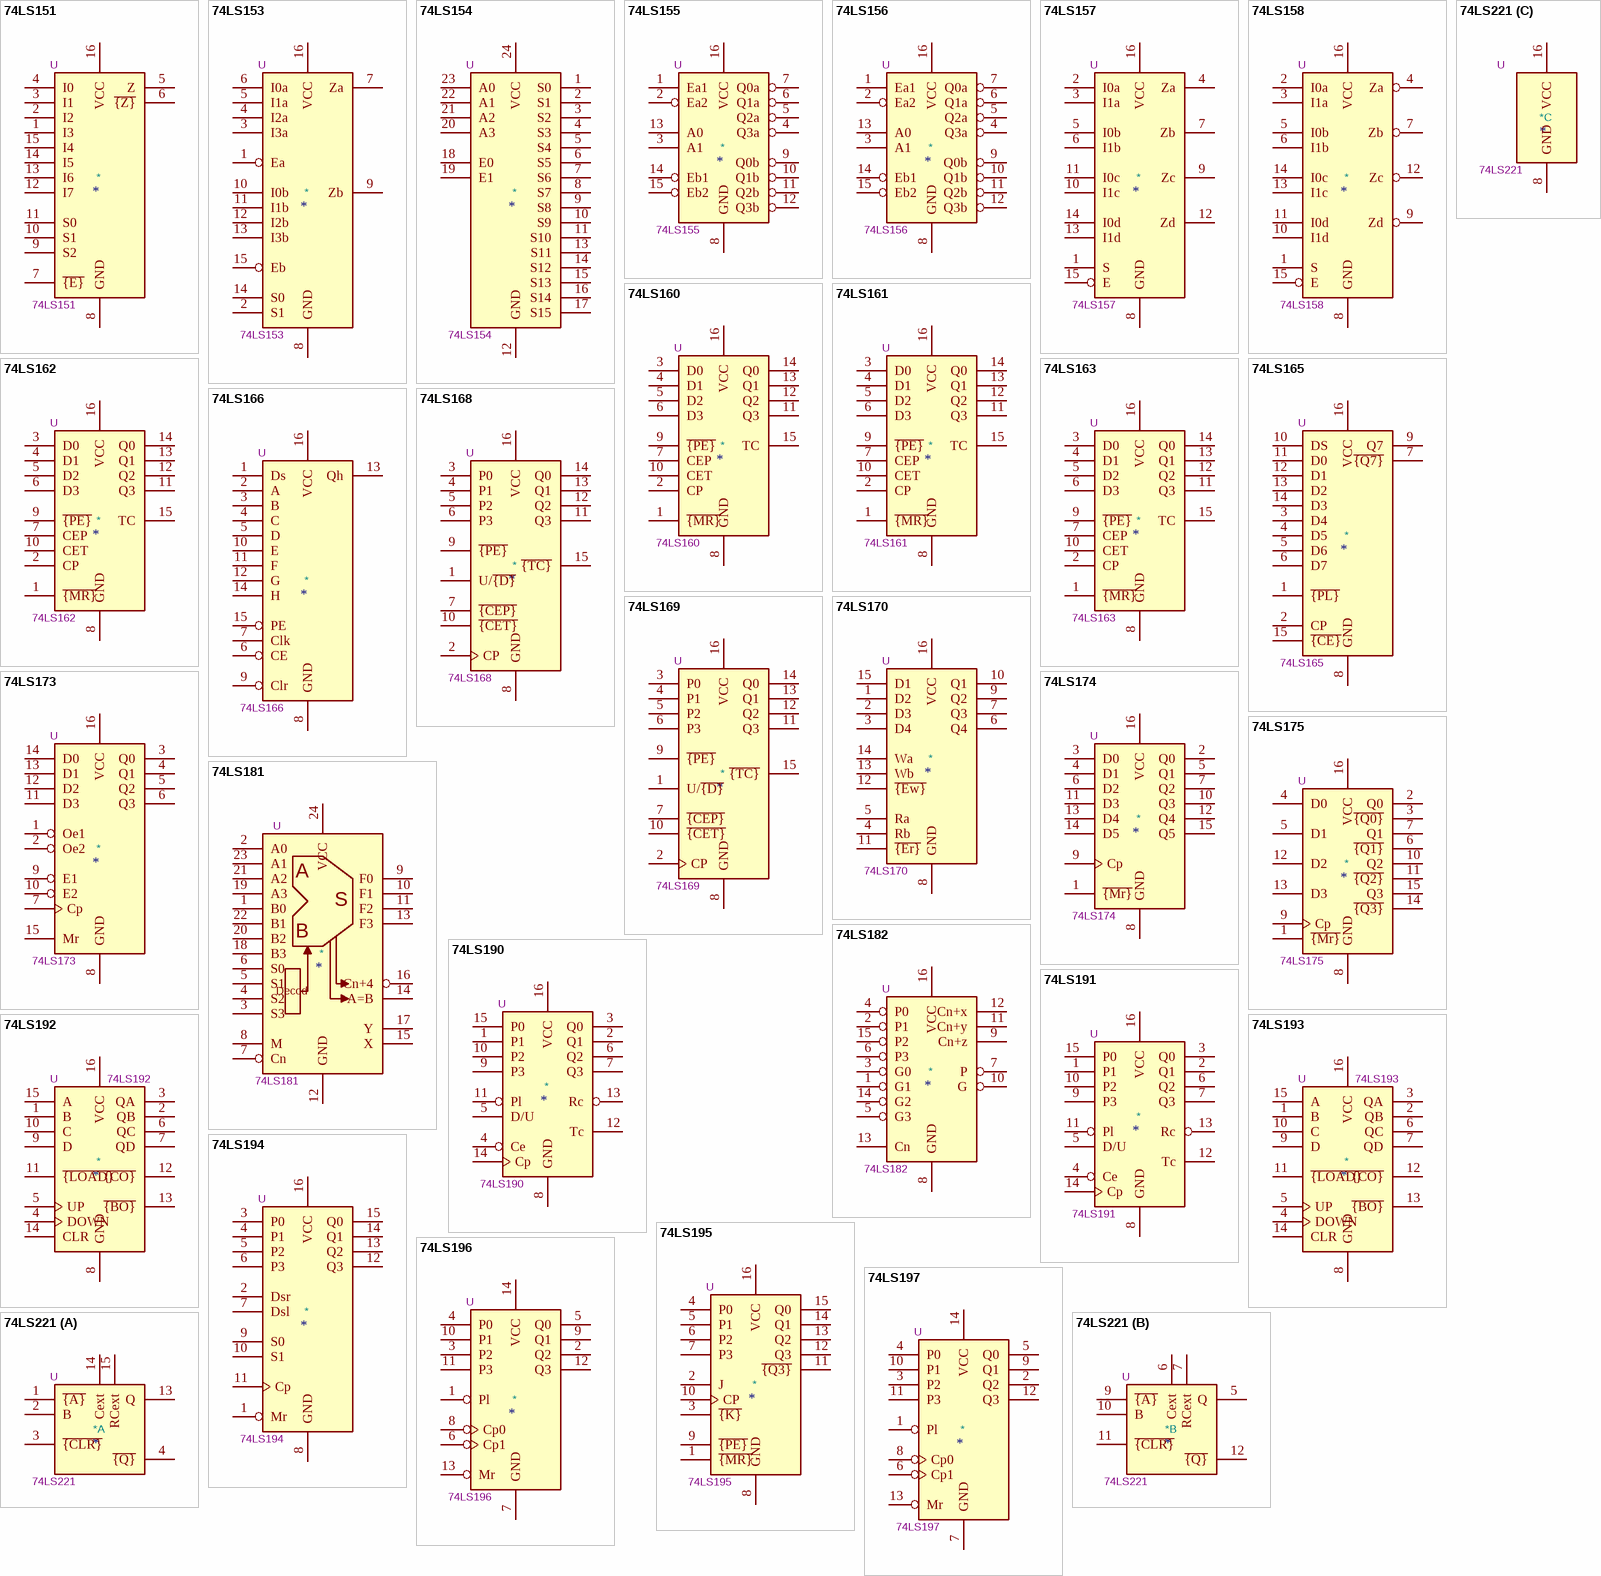
[diagram p10: symbols 74LS151 to 74LS221]

## 74LS151
designator *  value 74LS151  Reference: U
Multiplexer 8 to 1; ki_keywords: TTL MUX8; ki_fp_filters: DIP?16*; Datasheet: http://www.ti.com/lit/gpn/sn74LS151; Description_: Multiplexer 8 to 1
pins: 1 I3, 2 I2, 3 I1, 4 I0, 5 Z, 6 ~{{Z}}, 7 ~{{E}}, 8 GND, 9 S2, 10 S1, 11 S0, 12 I7, 13 I6, 14 I5, 15 I4, 16 VCC

## 74LS153
designator *  value 74LS153  Reference: U
Dual Multiplexer 4 to 1; ki_keywords: TTL Mux4; ki_fp_filters: DIP?16*; Datasheet: http://www.ti.com/lit/gpn/sn74LS153; Description_: Dual Multiplexer 4 to 1
pins: 1 Ea, 2 S1, 3 I3a, 4 I2a, 5 I1a, 6 I0a, 7 Za, 8 GND, 9 Zb, 10 I0b, 11 I1b, 12 I2b, 13 I3b, 14 S0, 15 Eb, 16 VCC

## 74LS154
designator *  value 74LS154  Reference: U
Decoder 4 to 16; ki_keywords: TTL DECOD16 DECOD; ki_fp_filters: DIP?24*; Datasheet: http://www.ti.com/lit/gpn/sn74LS154; Description_: Decoder 4 to 16
pins: 1 S0, 2 S1, 3 S2, 4 S3, 5 S4, 6 S5, 7 S6, 8 S7, 9 S8, 10 S9, 11 S10, 12 GND, 13 S11, 14 S12, 15 S13, 16 S14, 17 S15, 18 E0, 19 E1, 20 A3, 21 A2, 22 A1, 23 A0, 24 VCC

## 74LS155
designator *  value 74LS155  Reference: U
Dual 2 to 4 lines Decoder/Demultiplexer; ki_keywords: TTL DECOD8 DECOD4 DEMUX4 DEMUX8 DEMUX DECOD; ki_fp_filters: DIP?16*; Datasheet: http://www.ti.com/lit/gpn/sn74LS155; Description_: Dual 2 to 4 lines Decoder/Demultiplexer
pins: 1 Ea1, 2 Ea2, 3 A1, 4 Q3a, 5 Q2a, 6 Q1a, 7 Q0a, 8 GND, 9 Q0b, 10 Q1b, 11 Q2b, 12 Q3b, 13 A0, 14 Eb1, 15 Eb2, 16 VCC

## 74LS156
designator *  value 74LS156  Reference: U
Dual 2 to 4 lines Decoder/Demultiplexer, Open Collector; ki_keywords: TTL DECOD8 DECOD4 DEMUX4 DEMUX8 OpenCol; ki_fp_filters: DIP?16*; Datasheet: http://www.ti.com/lit/gpn/sn74LS156; Description_: Dual 2 to 4 lines Decoder/Demultiplexer, Open Collector
pins: 1 Ea1, 2 Ea2, 3 A1, 4 Q3a, 5 Q2a, 6 Q1a, 7 Q0a, 8 GND, 9 Q0b, 10 Q1b, 11 Q2b, 12 Q3b, 13 A0, 14 Eb1, 15 Eb2, 16 VCC

## 74LS157
designator *  value 74LS157  Reference: U
Quad 2 to 1 line Multiplexer; ki_keywords: TTL MUX MUX2; ki_fp_filters: DIP?16*; Datasheet: http://www.ti.com/lit/gpn/sn74LS157; Description_: Quad 2 to 1 line Multiplexer
pins: 1 S, 2 I0a, 3 I1a, 4 Za, 5 I0b, 6 I1b, 7 Zb, 8 GND, 9 Zc, 10 I1c, 11 I0c, 12 Zd, 13 I1d, 14 I0d, 15 E, 16 VCC

## 74LS158
designator *  value 74LS158  Reference: U
Quad 2 to 1 multiplexer; ki_keywords: TTL Mux MUX2; ki_fp_filters: DIP?16*; Datasheet: http://www.ti.com/lit/gpn/sn74LS158; Description_: Quad 2 to 1 multiplexer
pins: 1 S, 2 I0a, 3 I1a, 4 Za, 5 I0b, 6 I1b, 7 Zb, 8 GND, 9 Zd, 10 I1d, 11 I0d, 12 Zc, 13 I1c, 14 I0c, 15 E, 16 VCC

## 74LS160
designator *  value 74LS160  Reference: U
Synchronous 4-bit programmable decimal Counter; ki_keywords: TTL CNT CNT4; ki_fp_filters: DIP?16*; Datasheet: http://www.ti.com/lit/gpn/sn74LS160; Description_: Synchronous 4-bit programmable decimal Counter
pins: 1 ~{{MR}}, 2 CP, 3 D0, 4 D1, 5 D2, 6 D3, 7 CEP, 8 GND, 9 ~{{PE}}, 10 CET, 11 Q3, 12 Q2, 13 Q1, 14 Q0, 15 TC, 16 VCC

## 74LS161
designator *  value 74LS161  Reference: U
Synchronous 4-bit programmable binary Counter; ki_keywords: TTL CNT CNT4; ki_fp_filters: DIP?16*; Datasheet: http://www.ti.com/lit/gpn/sn74LS161; Description_: Synchronous 4-bit programmable binary Counter
pins: 1 ~{{MR}}, 2 CP, 3 D0, 4 D1, 5 D2, 6 D3, 7 CEP, 8 GND, 9 ~{{PE}}, 10 CET, 11 Q3, 12 Q2, 13 Q1, 14 Q0, 15 TC, 16 VCC

## 74LS162
designator *  value 74LS162  Reference: U
Synchronous 4-bit programmable decimal Counter; ki_keywords: TTL CNT CNT4; ki_fp_filters: DIP?16*; Datasheet: http://www.ti.com/lit/gpn/sn74LS162; Description_: Synchronous 4-bit programmable decimal Counter
pins: 1 ~{{MR}}, 2 CP, 3 D0, 4 D1, 5 D2, 6 D3, 7 CEP, 8 GND, 9 ~{{PE}}, 10 CET, 11 Q3, 12 Q2, 13 Q1, 14 Q0, 15 TC, 16 VCC

## 74LS163
designator *  value 74LS163  Reference: U
Synchronous 4-bit programmable binary Counter; ki_keywords: TTL CNT CNT4; ki_fp_filters: DIP?16*; Datasheet: http://www.ti.com/lit/gpn/sn74LS163; Description_: Synchronous 4-bit programmable binary Counter
pins: 1 ~{{MR}}, 2 CP, 3 D0, 4 D1, 5 D2, 6 D3, 7 CEP, 8 GND, 9 ~{{PE}}, 10 CET, 11 Q3, 12 Q2, 13 Q1, 14 Q0, 15 TC, 16 VCC

## 74LS165
designator *  value 74LS165  Reference: U
Shift Register 8-bit, parallel load; ki_keywords: TTL SR SR8; ki_fp_filters: DIP?16* SO*16*3.9x9.9mm*P1.27mm* SSOP*16*5.3x6.2mm*P0.65mm* TSSOP*16*4.4x5mm*P0.65*; Datasheet: https://www.ti.com/lit/ds/symlink/sn74ls165a.pdf; Description_: Shift Register 8-bit, parallel load
pins: 1 ~{{PL}}, 2 CP, 3 D4, 4 D5, 5 D6, 6 D7, 7 ~{{Q7}}, 8 GND, 9 Q7, 10 DS, 11 D0, 12 D1, 13 D2, 14 D3, 15 ~{{CE}}, 16 VCC

## 74LS166
designator *  value 74LS166  Reference: U
Shift Register 8-bit, parallel load; ki_keywords: TTL SR SR8; ki_fp_filters: DIP?16*; Datasheet: http://www.ti.com/lit/gpn/sn74LS166; Description_: Shift Register 8-bit, parallel load
pins: 1 Ds, 2 A, 3 B, 4 C, 5 D, 6 CE, 7 Clk, 8 GND, 9 Clr, 10 E, 11 F, 12 G, 13 Qh, 14 H, 15 PE, 16 VCC

## 74LS168
designator *  value 74LS168  Reference: U
Synchronous 4-bit Up/Down Decimal counter; ki_keywords: TTL CNT CNT4; ki_fp_filters: DIP?16*; Datasheet: http://www.ti.com/lit/gpn/sn74LS168; Description_: Synchronous 4-bit Up/Down Decimal counter
pins: 1 U/~{{D}}, 2 CP, 3 P0, 4 P1, 5 P2, 6 P3, 7 ~{{CEP}}, 8 GND, 9 ~{{PE}}, 10 ~{{CET}}, 11 Q3, 12 Q2, 13 Q1, 14 Q0, 15 ~{{TC}}, 16 VCC

## 74LS169
designator *  value 74LS169  Reference: U
Synchronous 4-bit Up/Down binary counter; ki_keywords: TTL CNT CNT4; ki_fp_filters: DIP?16*; Datasheet: http://www.ti.com/lit/gpn/sn74LS169; Description_: Synchronous 4-bit Up/Down binary counter
pins: 1 U/~{{D}}, 2 CP, 3 P0, 4 P1, 5 P2, 6 P3, 7 ~{{CEP}}, 8 GND, 9 ~{{PE}}, 10 ~{{CET}}, 11 Q3, 12 Q2, 13 Q1, 14 Q0, 15 ~{{TC}}, 16 VCC

## 74LS170
designator *  value 74LS170  Reference: U
4 x 4 Register Files Open Collector; ki_keywords: TTL Register OpenCol; ki_fp_filters: DIP?16*; Datasheet: http://www.ti.com/lit/gpn/sn74LS170; Description_: 4 x 4 Register Files Open Collector
pins: 1 D2, 2 D3, 3 D4, 4 Rb, 5 Ra, 6 Q4, 7 Q3, 8 GND, 9 Q2, 10 Q1, 11 ~{{Er}}, 12 ~{{Ew}}, 13 Wb, 14 Wa, 15 D1, 16 VCC

## 74LS173
designator *  value 74LS173  Reference: U
4-bit D-type Register, 3 state out; ki_keywords: TTL REG REG4 3State DFF; ki_fp_filters: DIP?16*; Datasheet: http://www.ti.com/lit/gpn/sn74LS173; Description_: 4-bit D-type Register, 3 state out
pins: 1 Oe1, 2 Oe2, 3 Q0, 4 Q1, 5 Q2, 6 Q3, 7 Cp, 8 GND, 9 E1, 10 E2, 11 D3, 12 D2, 13 D1, 14 D0, 15 Mr, 16 VCC

## 74LS174
designator *  value 74LS174  Reference: U
Hex D-type Flip-Flop, reset; ki_keywords: TTL REG REG6 DFF; ki_fp_filters: DIP?16*; Datasheet: http://www.ti.com/lit/gpn/sn74LS174; Description_: Hex D-type Flip-Flop, reset
pins: 1 ~{{Mr}}, 2 Q0, 3 D0, 4 D1, 5 Q1, 6 D2, 7 Q2, 8 GND, 9 Cp, 10 Q3, 11 D3, 12 Q4, 13 D4, 14 D5, 15 Q5, 16 VCC

## 74LS175
designator *  value 74LS175  Reference: U
4-bit D Flip-Flop, reset; ki_keywords: TTL REG REG4 DFF; ki_fp_filters: DIP?16*; Datasheet: http://www.ti.com/lit/gpn/sn74LS175; Description_: 4-bit D Flip-Flop, reset
pins: 1 ~{{Mr}}, 2 Q0, 3 ~{{Q0}}, 4 D0, 5 D1, 6 ~{{Q1}}, 7 Q1, 8 GND, 9 Cp, 10 Q2, 11 ~{{Q2}}, 12 D2, 13 D3, 14 ~{{Q3}}, 15 Q3, 16 VCC

## 74LS181
designator *  value 74LS181  Reference: U
Arithmetic logic unit; ki_keywords: TTL ALU ARITH; ki_fp_filters: DIP?24*; Datasheet: 74xx/74F181.pdf; Description_: Arithmetic logic unit
pins: 1 B0, 2 A0, 3 S3, 4 S2, 5 S1, 6 S0, 7 Cn, 8 M, 9 F0, 10 F1, 11 F2, 12 GND, 13 F3, 14 A=B, 15 X, 16 Cn+4, 17 Y, 18 B3, 19 A3, 20 B2, 21 A2, 22 B1, 23 A1, 24 VCC
text: A; S; B; Decod

## 74LS182
designator *  value 74LS182  Reference: U
Carry generator; ki_keywords: TTL ALU ARITH; ki_fp_filters: DIP?16*; Datasheet: http://www.ti.com/lit/gpn/sn74LS182; Description_: Carry generator
pins: 1 G1, 2 P1, 3 G0, 4 P0, 5 G3, 6 P3, 7 P, 8 GND, 9 Cn+z, 10 G, 11 Cn+y, 12 Cn+x, 13 Cn, 14 G2, 15 P2, 16 VCC

## 74LS190
designator *  value 74LS190  Reference: U
4-bit Synchronous Up/Down BCD Counter; ki_keywords: TTL CNT CNT4; ki_fp_filters: DIP?16*; Datasheet: http://www.ti.com/lit/gpn/sn74LS190; Description_: 4-bit Synchronous Up/Down BCD Counter
pins: 1 P1, 2 Q1, 3 Q0, 4 Ce, 5 D/U, 6 Q2, 7 Q3, 8 GND, 9 P3, 10 P2, 11 Pl, 12 Tc, 13 Rc, 14 Cp, 15 P0, 16 VCC

## 74LS191
designator *  value 74LS191  Reference: U
4-bit Synchronous Up/Down binary Counter; ki_keywords: TTL CNT CNT4; ki_fp_filters: DIP?16*; Datasheet: http://www.ti.com/lit/gpn/sn74LS191; Description_: 4-bit Synchronous Up/Down binary Counter
pins: 1 P1, 2 Q1, 3 Q0, 4 Ce, 5 D/U, 6 Q2, 7 Q3, 8 GND, 9 P3, 10 P2, 11 Pl, 12 Tc, 13 Rc, 14 Cp, 15 P0, 16 VCC

## 74LS192
designator *  value 74LS192  Reference: U
Synchronous 4-bit Up/Down (2 clk) counter; ki_keywords: TTL CNT CNT4; ki_fp_filters: SOIC*3.9x9.9mm*P1.27mm* DIP*W7.62mm*; Datasheet: http://www.ti.com/lit/ds/symlink/sn74ls193.pdf; Description_: Synchronous 4-bit Up/Down (2 clk) counter
pins: 1 B, 2 QB, 3 QA, 4 DOWN, 5 UP, 6 QC, 7 QD, 8 GND, 9 D, 10 C, 11 ~{{LOAD}}, 12 ~{{CO}}, 13 ~{{BO}}, 14 CLR, 15 A, 16 VCC

## 74LS193
designator *  value 74LS193  Reference: U
Synchronous 4-bit Up/Down (2 clk) counter; ki_keywords: TTL CNT CNT4; ki_fp_filters: SOIC*3.9x9.9mm*P1.27mm* DIP*W7.62mm*; Datasheet: http://www.ti.com/lit/ds/symlink/sn74ls193.pdf; Description_: Synchronous 4-bit Up/Down (2 clk) counter
pins: 1 B, 2 QB, 3 QA, 4 DOWN, 5 UP, 6 QC, 7 QD, 8 GND, 9 D, 10 C, 11 ~{{LOAD}}, 12 ~{{CO}}, 13 ~{{BO}}, 14 CLR, 15 A, 16 VCC

## 74LS194
designator *  value 74LS194  Reference: U
Shift Register 4-bit Bidirectional; ki_keywords: TTL RS SR4; ki_fp_filters: DIP?16*; Datasheet: http://www.ti.com/lit/gpn/sn74LS194; Description_: Shift Register 4-bit Bidirectional
pins: 1 Mr, 2 Dsr, 3 P0, 4 P1, 5 P2, 6 P3, 7 Dsl, 8 GND, 9 S0, 10 S1, 11 Cp, 12 Q3, 13 Q2, 14 Q1, 15 Q0, 16 VCC

## 74LS195
designator *  value 74LS195  Reference: U
Shift Register 4-bit, parallel; ki_keywords: TTL SR SR4; ki_fp_filters: DIP?16*; Datasheet: http://www.ti.com/lit/gpn/sn74LS195; Description_: Shift Register 4-bit, parallel
pins: 1 ~{{MR}}, 2 J, 3 ~{{K}}, 4 P0, 5 P1, 6 P2, 7 P3, 8 GND, 9 ~{{PE}}, 10 CP, 11 ~{{Q3}}, 12 Q3, 13 Q2, 14 Q1, 15 Q0, 16 VCC

## 74LS196
designator *  value 74LS196  Reference: U
4 (3+1)-bit presettable BCD counter; ki_keywords: TTL CNT CNT4; ki_fp_filters: DIP*W7.62mm*; Datasheet: http://www.ti.com/lit/gpn/sn74LS196; Description_: 4 (3+1)-bit presettable BCD counter
pins: 1 Pl, 2 Q2, 3 P2, 4 P0, 5 Q0, 6 Cp1, 7 GND, 8 Cp0, 9 Q1, 10 P1, 11 P3, 12 Q3, 13 Mr, 14 VCC

## 74LS197
designator *  value 74LS197  Reference: U
4 (3+1)-bit presettable binary counter; ki_keywords: TTL CNT CNT4; ki_fp_filters: DIP*W7.62mm*; Datasheet: http://www.ti.com/lit/gpn/sn74LS197; Description_: 4 (3+1)-bit presettable binary counter
pins: 1 Pl, 2 Q2, 3 P2, 4 P0, 5 Q0, 6 Cp1, 7 GND, 8 Cp0, 9 Q1, 10 P1, 11 P3, 12 Q3, 13 Mr, 14 VCC

## 74LS221
designator *  value 74LS221  Reference: U
Dual Monostable; ki_keywords: TTL Monostable; ki_fp_filters: DIP?16*; Datasheet: http://www.ti.com/lit/gpn/sn74LS221; Description_: Dual Monostable
part A pins: 1 ~{{A}}, 2 B, 3 ~{{CLR}}, 4 ~{{Q}}, 13 Q, 14 Cext, 15 RCext
part B pins: 5 Q, 6 Cext, 7 RCext, 9 ~{{A}}, 10 B, 11 ~{{CLR}}, 12 ~{{Q}}
part C pins: 8 GND, 16 VCC

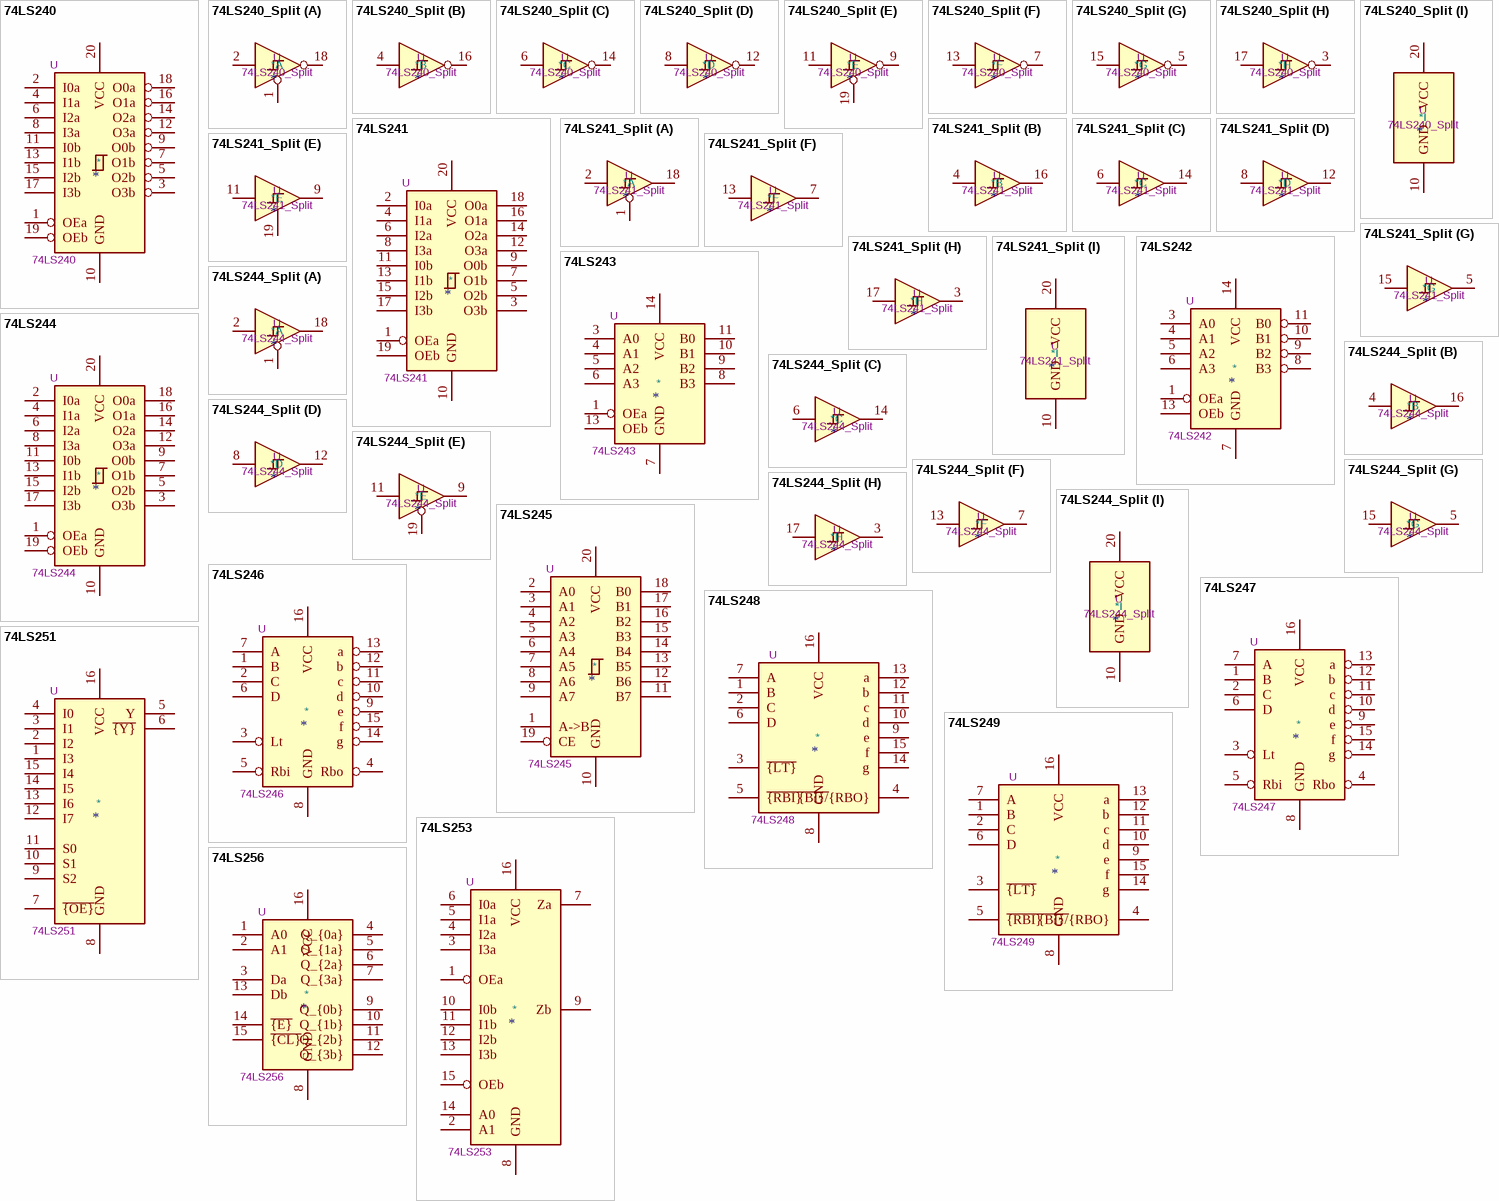
[diagram p11: symbols 74LS240 to 74LS256]

## 74LS240
designator *  value 74LS240  Reference: U
Octal Buffer and Line Driver With 3-State Output, active-low enables, inverting outputs; ki_keywords: 7400 logic ttl low power schottky; ki_fp_filters: DIP?20*; Datasheet: http://www.ti.com/lit/ds/symlink/sn74ls240.pdf; Description_: Octal Buffer and Line Driver With 3-State Output, active-low enables, inverting outputs
pins: 1 OEa, 2 I0a, 3 O3b, 4 I1a, 5 O2b, 6 I2a, 7 O1b, 8 I3a, 9 O0b, 10 GND, 11 I0b, 12 O3a, 13 I1b, 14 O2a, 15 I2b, 16 O1a, 17 I3b, 18 O0a, 19 OEb, 20 VCC

## 74LS240_Split
designator *  value 74LS240_Split  Reference: U
Octal Buffer and Line Driver With 3-State Output, active-low enables, inverting outputs, split symbol; ki_keywords: 7400 logic ttl low power schottky; ki_fp_filters: DIP*W7.62mm* SOIC*7.5x12.8mm*P1.27mm* *SSOP*5.3x7.2mm*P0.65mm*; Datasheet: http://www.ti.com/lit/ds/symlink/sn74ls240.pdf; Description_: Octal Buffer and Line Driver With 3-State Output, active-low enables, inverting outputs, split symbol
part A pins: 1, 2, 18
part B pins: 4, 16
part C pins: 6, 14
part D pins: 8, 12
part E pins: 9, 11, 19
part F pins: 7, 13
part G pins: 5, 15
part H pins: 3, 17
part I pins: 10 GND, 20 VCC

## 74LS241
designator *  value 74LS241  Reference: U
Octal Buffer and Line Driver With 3-State Output, complementary enables, non-inverting outputs; ki_keywords: 7400 logic ttl low power schottky; ki_fp_filters: DIP?20*; Datasheet: http://www.ti.com/lit/ds/symlink/sn74ls241.pdf; Description_: Octal Buffer and Line Driver With 3-State Output, complementary enables, non-inverting outputs
pins: 1 OEa, 2 I0a, 3 O3b, 4 I1a, 5 O2b, 6 I2a, 7 O1b, 8 I3a, 9 O0b, 10 GND, 11 I0b, 12 O3a, 13 I1b, 14 O2a, 15 I2b, 16 O1a, 17 I3b, 18 O0a, 19 OEb, 20 VCC

## 74LS241_Split
designator *  value 74LS241_Split  Reference: U
Octal Buffer and Line Driver With 3-State Output, complementary enables, non-inverting outputs, split symbol; ki_keywords: 7400 logic ttl low power schottky; ki_fp_filters: DIP*W7.62mm* SOIC*7.5x12.8mm*P1.27mm* *SSOP*5.3x7.2mm*P0.65mm*; Datasheet: http://www.ti.com/lit/ds/symlink/sn74ls241.pdf; Description_: Octal Buffer and Line Driver With 3-State Output, complementary enables, non-inverting outputs, split symbol
part A pins: 1, 2, 18
part B pins: 4, 16
part C pins: 6, 14
part D pins: 8, 12
part E pins: 9, 11, 19
part F pins: 7, 13
part G pins: 5, 15
part H pins: 3, 17
part I pins: 10 GND, 20 VCC

## 74LS242
designator *  value 74LS242  Reference: U
quad bus transceiver, inverting 3-state outputs; ki_keywords: bus 3state; ki_fp_filters: DIP?12*; Datasheet: http://www.ti.com/lit/gpn/sn74LS242; Description_: quad bus transceiver, inverting 3-state outputs
pins: 1 OEa, 3 A0, 4 A1, 5 A2, 6 A3, 7 GND, 8 B3, 9 B2, 10 B1, 11 B0, 13 OEb, 14 VCC

## 74LS243
designator *  value 74LS243  Reference: U
4-bit Bus Transceiver; ki_keywords: TTL Buffer 3State BUS BIDI; ki_fp_filters: DIP?12*; Datasheet: http://www.ti.com/lit/gpn/sn74LS243; Description_: 4-bit Bus Transceiver
pins: 1 OEa, 3 A0, 4 A1, 5 A2, 6 A3, 7 GND, 8 B3, 9 B2, 10 B1, 11 B0, 13 OEb, 14 VCC

## 74LS244
designator *  value 74LS244  Reference: U
Octal Buffer and Line Driver With 3-State Output, active-low enables, non-inverting outputs; ki_keywords: 7400 logic ttl low power schottky; ki_fp_filters: DIP?20*; Datasheet: http://www.ti.com/lit/ds/symlink/sn74ls244.pdf; Description_: Octal Buffer and Line Driver With 3-State Output, active-low enables, non-inverting outputs
pins: 1 OEa, 2 I0a, 3 O3b, 4 I1a, 5 O2b, 6 I2a, 7 O1b, 8 I3a, 9 O0b, 10 GND, 11 I0b, 12 O3a, 13 I1b, 14 O2a, 15 I2b, 16 O1a, 17 I3b, 18 O0a, 19 OEb, 20 VCC

## 74LS244_Split
designator *  value 74LS244_Split  Reference: U
Octal Buffer and Line Driver With 3-State Output, active-low enables, non-inverting outputs, split symbol; ki_keywords: 7400 logic ttl low power schottky; ki_fp_filters: DIP*W7.62mm* SOIC*7.5x12.8mm*P1.27mm* *SSOP*5.3x7.2mm*P0.65mm*; Datasheet: http://www.ti.com/lit/ds/symlink/sn74ls241.pdf; Description_: Octal Buffer and Line Driver With 3-State Output, active-low enables, non-inverting outputs, split symbol
part A pins: 1, 2, 18
part B pins: 4, 16
part C pins: 6, 14
part D pins: 8, 12
part E pins: 9, 11, 19
part F pins: 7, 13
part G pins: 5, 15
part H pins: 3, 17
part I pins: 10 GND, 20 VCC

## 74LS245
designator *  value 74LS245  Reference: U
Octal BUS Transceivers, 3-State outputs; ki_keywords: TTL BUS 3State; ki_fp_filters: DIP?20*; Datasheet: http://www.ti.com/lit/gpn/sn74LS245; Description_: Octal BUS Transceivers, 3-State outputs
pins: 1 A->B, 2 A0, 3 A1, 4 A2, 5 A3, 6 A4, 7 A5, 8 A6, 9 A7, 10 GND, 11 B7, 12 B6, 13 B5, 14 B4, 15 B3, 16 B2, 17 B1, 18 B0, 19 CE, 20 VCC

## 74LS246
designator *  value 74LS246  Reference: U
BCD to 7-segment Decoder Open Collector active Low; ki_keywords: TTL DECOD; ki_fp_filters: DIP?16*; Datasheet: http://www.ti.com/lit/gpn/sn74LS246; Description_: BCD to 7-segment Decoder Open Collector active Low
pins: 1 B, 2 C, 3 Lt, 4 Rbo, 5 Rbi, 6 D, 7 A, 8 GND, 9 e, 10 d, 11 c, 12 b, 13 a, 14 g, 15 f, 16 VCC

## 74LS247
designator *  value 74LS247  Reference: U
BCD to 7 segments Decoder Open Collector active Low; ki_keywords: TTL DECOD; ki_fp_filters: DIP?16*; Datasheet: http://www.ti.com/lit/gpn/sn74LS247; Description_: BCD to 7 segments Decoder Open Collector active Low
pins: 1 B, 2 C, 3 Lt, 4 Rbo, 5 Rbi, 6 D, 7 A, 8 GND, 9 e, 10 d, 11 c, 12 b, 13 a, 14 g, 15 f, 16 VCC

## 74LS248
designator *  value 74LS248  Reference: U
BCD to 7-segment Decoder, Active High; ki_keywords: TTL DECOD; ki_fp_filters: DIP?16*; Datasheet: http://www.ti.com/lit/gpn/sn74LS248; Description_: BCD to 7-segment Decoder, Active High
pins: 1 B, 2 C, 3 ~{{LT}}, 4 ~{{BI}/}{RBO}, 5 ~{{RBI}}, 6 D, 7 A, 8 GND, 9 e, 10 d, 11 c, 12 b, 13 a, 14 g, 15 f, 16 VCC

## 74LS249
designator *  value 74LS249  Reference: U
BCD to 7-segment Decoder, Open collector, Active High; ki_keywords: TTL DECOD OpenCol; ki_fp_filters: DIP?16*; Datasheet: http://www.ti.com/lit/gpn/sn74LS249; Description_: BCD to 7-segment Decoder, Open collector, Active High
pins: 1 B, 2 C, 3 ~{{LT}}, 4 ~{{BI}/}{RBO}, 5 ~{{RBI}}, 6 D, 7 A, 8 GND, 9 e, 10 d, 11 c, 12 b, 13 a, 14 g, 15 f, 16 VCC

## 74LS251
designator *  value 74LS251  Reference: U
Multiplexer 8 to 1, 3-state Outputs; ki_keywords: TTL MUX MUX8 3State; ki_fp_filters: DIP?16*; Datasheet: http://www.ti.com/lit/gpn/sn74LS251; Description_: Multiplexer 8 to 1, 3-state Outputs
pins: 1 I3, 2 I2, 3 I1, 4 I0, 5 Y, 6 ~{{Y}}, 7 ~{{OE}}, 8 GND, 9 S2, 10 S1, 11 S0, 12 I7, 13 I6, 14 I5, 15 I4, 16 VCC

## 74LS253
designator *  value 74LS253  Reference: U
Dual Multiplexer 4 to 1, 3-State Outputs; ki_keywords: TTL MUX MUX4 3State; ki_fp_filters: DIP?16*; Datasheet: http://www.ti.com/lit/gpn/sn74LS253; Description_: Dual Multiplexer 4 to 1, 3-State Outputs
pins: 1 OEa, 2 A1, 3 I3a, 4 I2a, 5 I1a, 6 I0a, 7 Za, 8 GND, 9 Zb, 10 I0b, 11 I1b, 12 I2b, 13 I3b, 14 A0, 15 OEb, 16 VCC

## 74LS256
designator *  value 74LS256  Reference: U
dual 4-bit addressable latch; ki_fp_filters: DIP?16*; Datasheet: https://alfter.us/wp-content/uploads/2022/12/74LS256.pdf; Description_: dual 4-bit addressable latch; ki_keywords: latch
pins: 1 A0, 2 A1, 3 Da, 4 Q_{0a}, 5 Q_{1a}, 6 Q_{2a}, 7 Q_{3a}, 8 GND, 9 Q_{0b}, 10 Q_{1b}, 11 Q_{2b}, 12 Q_{3b}, 13 Db, 14 ~{{E}}, 15 ~{{CL}}, 16 VCC

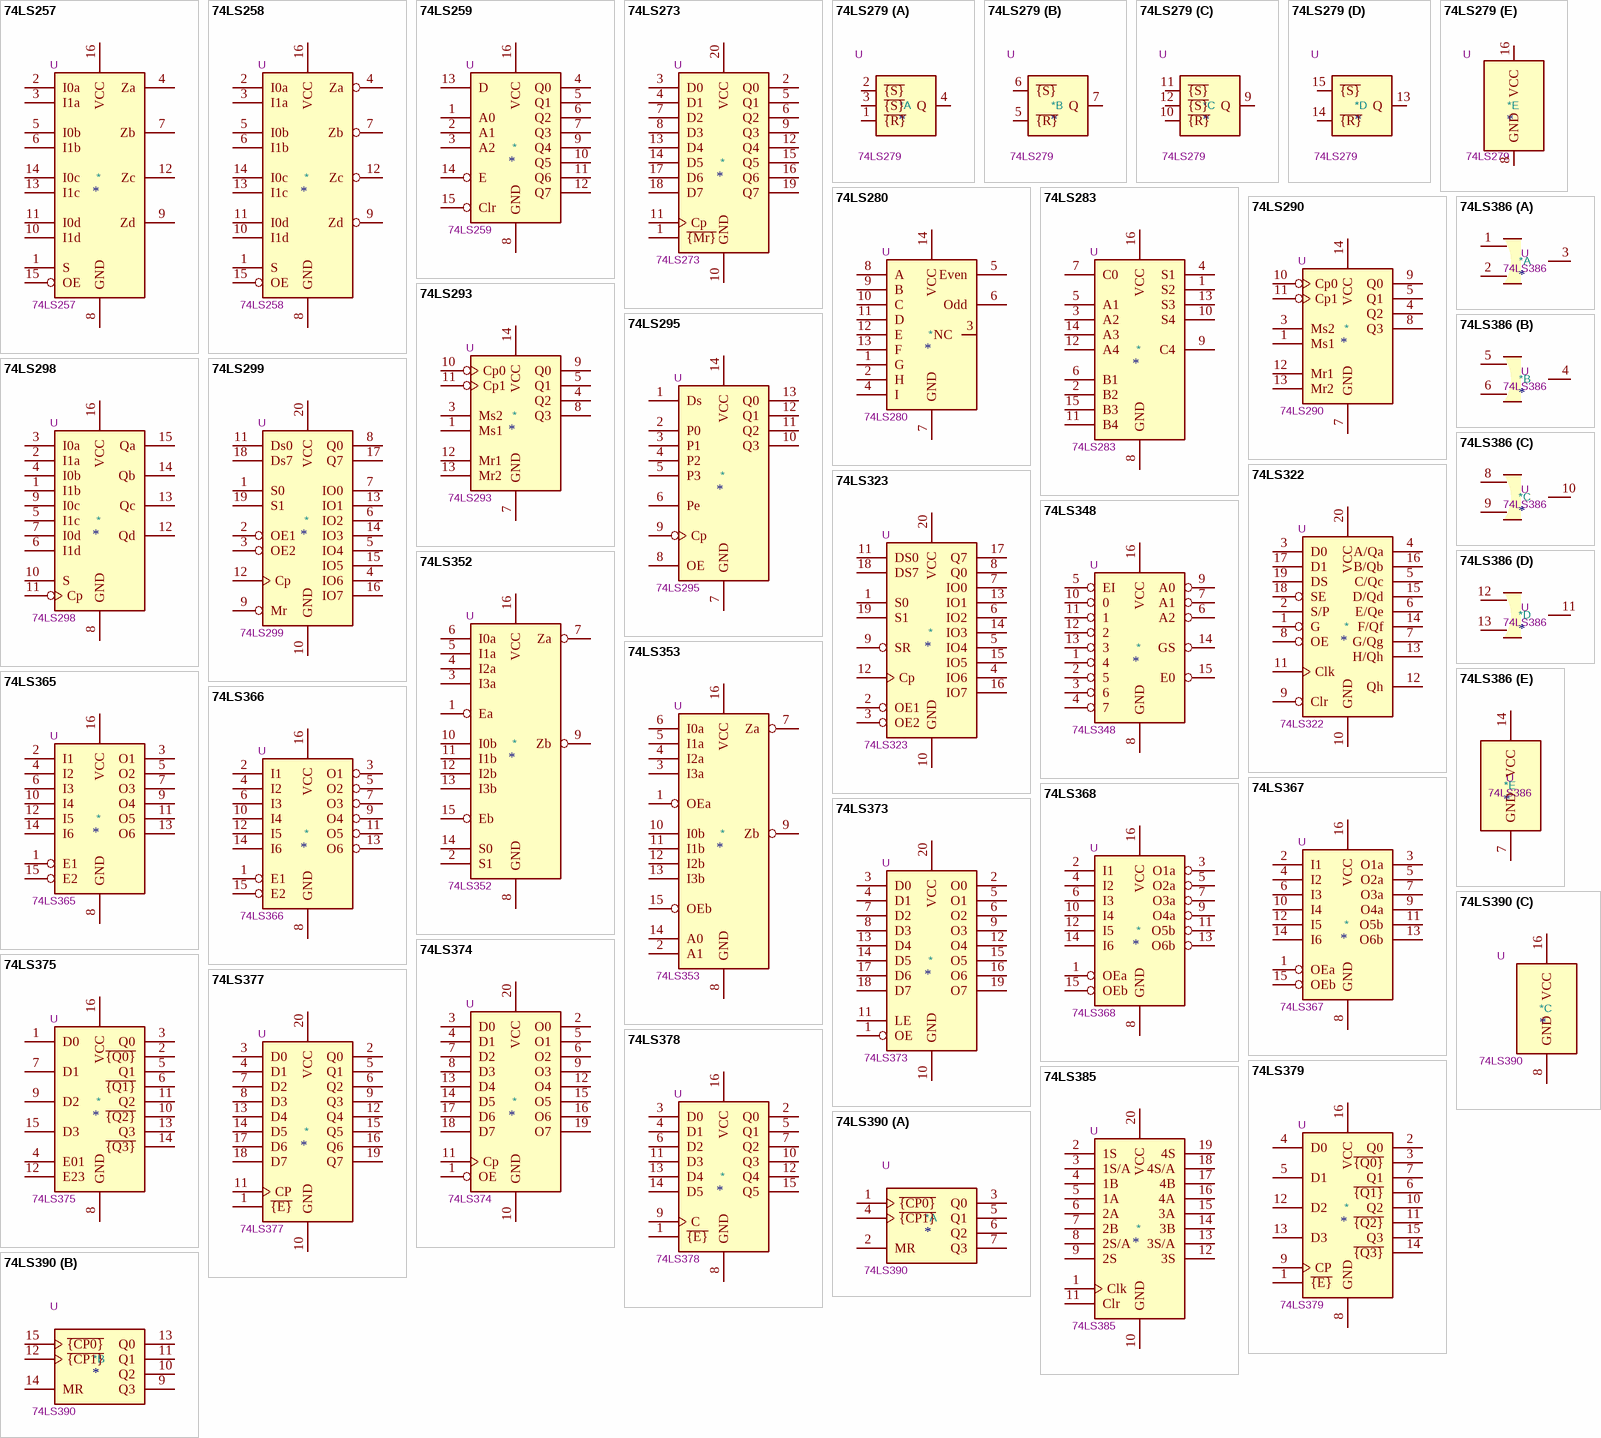
[diagram p12: symbols 74LS257 to 74LS390]

## 74LS257
designator *  value 74LS257  Reference: U
Quad 2 to 1 Multiplexer; ki_keywords: TTL MUX MUX2; ki_fp_filters: DIP?16*; Datasheet: http://www.ti.com/lit/gpn/sn74LS257; Description_: Quad 2 to 1 Multiplexer
pins: 1 S, 2 I0a, 3 I1a, 4 Za, 5 I0b, 6 I1b, 7 Zb, 8 GND, 9 Zd, 10 I1d, 11 I0d, 12 Zc, 13 I1c, 14 I0c, 15 OE, 16 VCC

## 74LS258
designator *  value 74LS258  Reference: U
Quad 2 to 1 Multiplexer, inverting; ki_keywords: TTL MUX MUX2; ki_fp_filters: DIP?16*; Datasheet: http://www.ti.com/lit/gpn/sn74LS258; Description_: Quad 2 to 1 Multiplexer, inverting
pins: 1 S, 2 I0a, 3 I1a, 4 Za, 5 I0b, 6 I1b, 7 Zb, 8 GND, 9 Zd, 10 I1d, 11 I0d, 12 Zc, 13 I1c, 14 I0c, 15 OE, 16 VCC

## 74LS259
designator *  value 74LS259  Reference: U
8-bit addressable latch; ki_keywords: TTL REG DFF; ki_fp_filters: DIP?16*; Datasheet: http://www.ti.com/lit/gpn/sn74LS259; Description_: 8-bit addressable latch
pins: 1 A0, 2 A1, 3 A2, 4 Q0, 5 Q1, 6 Q2, 7 Q3, 8 GND, 9 Q4, 10 Q5, 11 Q6, 12 Q7, 13 D, 14 E, 15 Clr, 16 VCC

## 74LS273
designator *  value 74LS273  Reference: U
8-bit D Flip-Flop, reset; ki_keywords: TTL DFF DFF8; ki_fp_filters: DIP?20* SO?20* SOIC?20*; Datasheet: http://www.ti.com/lit/gpn/sn74LS273; Description_: 8-bit D Flip-Flop, reset
pins: 1 ~{{Mr}}, 2 Q0, 3 D0, 4 D1, 5 Q1, 6 Q2, 7 D2, 8 D3, 9 Q3, 10 GND, 11 Cp, 12 Q4, 13 D4, 14 D5, 15 Q5, 16 Q6, 17 D6, 18 D7, 19 Q7, 20 VCC

## 74LS279
designator *  value 74LS279  Reference: U
Quad SR latch, DIP-16/SOIC-16/SOIC-16W; ki_keywords: TTL latch set reset srs flip flop flipflop rs-flipflop; ki_fp_filters: DIP*W7.62mm* SOIC*3.9x9.9mm*P1.27mm* SOIC*5.3x10.2mm*P1.27mm*; Datasheet: https://www.ti.com/lit/gpn/sn54ls279a; Description_: Quad SR latch, DIP-16/SOIC-16/SOIC-16W
part A pins: 1 ~{{R}}, 2 ~{{S}}, 3 ~{{S}}, 4 Q
part B pins: 5 ~{{R}}, 6 ~{{S}}, 7 Q
part C pins: 9 Q, 10 ~{{R}}, 11 ~{{S}}, 12 ~{{S}}
part D pins: 13 Q, 14 ~{{R}}, 15 ~{{S}}
part E pins: 8 GND, 16 VCC

## 74LS280
designator *  value 74LS280  Reference: U
Parity Generator/Checker; ki_keywords: TTL ALU Arith; ki_fp_filters: DIP*W7.62mm*; Datasheet: http://www.ti.com/lit/gpn/sn74LS280; Description_: Parity Generator/Checker
pins: 1 G, 2 H, 3 NC, 4 I, 5 Even, 6 Odd, 7 GND, 8 A, 9 B, 10 C, 11 D, 12 E, 13 F, 14 VCC

## 74LS283
designator *  value 74LS283  Reference: U
4-bit full Adder; ki_keywords: TTL ADD Arith ALU; ki_fp_filters: DIP?16*; Datasheet: http://www.ti.com/lit/gpn/sn74LS283; Description_: 4-bit full Adder
pins: 1 S2, 2 B2, 3 A2, 4 S1, 5 A1, 6 B1, 7 C0, 8 GND, 9 C4, 10 S4, 11 B4, 12 A4, 13 S3, 14 A3, 15 B3, 16 VCC

## 74LS290
designator *  value 74LS290  Reference: U
4-bit BCD counter; ki_keywords: TTL CNT CNT4; ki_fp_filters: DIP?12*; Datasheet: http://www.ti.com/lit/gpn/sn74LS290; Description_: 4-bit BCD counter
pins: 1 Ms1, 3 Ms2, 4 Q2, 5 Q1, 7 GND, 8 Q3, 9 Q0, 10 Cp0, 11 Cp1, 12 Mr1, 13 Mr2, 14 VCC

## 74LS293
designator *  value 74LS293  Reference: U
4-bit binary counter; ki_keywords: TTL CNT CNT4; ki_fp_filters: DIP?12*; Datasheet: http://www.ti.com/lit/gpn/sn74LS293; Description_: 4-bit binary counter
pins: 1 Ms1, 3 Ms2, 4 Q2, 5 Q1, 7 GND, 8 Q3, 9 Q0, 10 Cp0, 11 Cp1, 12 Mr1, 13 Mr2, 14 VCC

## 74LS295
designator *  value 74LS295  Reference: U
4-bit bidirectional register, 3-state outputs; ki_fp_filters: DIP*W7.62mm*; Datasheet: http://www.ti.com/lit/gpn/sn74LS295; Description_: 4-bit bidirectional register, 3-state outputs; ki_keywords: register
pins: 1 Ds, 2 P0, 3 P1, 4 P2, 5 P3, 6 Pe, 7 GND, 8 OE, 9 Cp, 10 Q3, 11 Q2, 12 Q1, 13 Q0, 14 VCC

## 74LS298
designator *  value 74LS298  Reference: U
Quad 2 to 1 multiplexer with storage; ki_keywords: TTL MUX MUX2; ki_fp_filters: DIP?16*; Datasheet: http://www.ti.com/lit/gpn/sn74LS298; Description_: Quad 2 to 1 multiplexer with storage
pins: 1 I1b, 2 I1a, 3 I0a, 4 I0b, 5 I1c, 6 I1d, 7 I0d, 8 GND, 9 I0c, 10 S, 11 Cp, 12 Qd, 13 Qc, 14 Qb, 15 Qa, 16 VCC

## 74LS299
designator *  value 74LS299  Reference: U
8-bit Universal shift/storage Register; ki_keywords: TTL REG SR SR8; ki_fp_filters: DIP?20*; Datasheet: http://www.ti.com/lit/gpn/sn74LS299; Description_: 8-bit Universal shift/storage Register
pins: 1 S0, 2 OE1, 3 OE2, 4 IO6, 5 IO4, 6 IO2, 7 IO0, 8 Q0, 9 Mr, 10 GND, 11 Ds0, 12 Cp, 13 IO1, 14 IO3, 15 IO5, 16 IO7, 17 Q7, 18 Ds7, 19 S1, 20 VCC

## 74LS322
designator *  value 74LS322  Reference: U
8-bit shift register, sign extend, 3-state outputs; ki_fp_filters: DIP?20*; Datasheet: http://www.ti.com/lit/gpn/sn74LS322; Description_: 8-bit shift register, sign extend, 3-state outputs; ki_keywords: register
pins: 1 G, 2 S/P, 3 D0, 4 A/Qa, 5 C/Qc, 6 E/Qe, 7 G/Qg, 8 OE, 9 Clr, 10 GND, 11 Clk, 12 Qh, 13 H/Qh, 14 F/Qf, 15 D/Qd, 16 B/Qb, 17 D1, 18 SE, 19 DS, 20 VCC

## 74LS323
designator *  value 74LS323  Reference: U
8-bit Universal Shift/Storage Register; ki_keywords: TTL REG SR SR8; ki_fp_filters: DIP?20*; Datasheet: http://www.ti.com/lit/gpn/sn74LS323; Description_: 8-bit Universal Shift/Storage Register
pins: 1 S0, 2 OE1, 3 OE2, 4 IO6, 5 IO4, 6 IO2, 7 IO0, 8 Q0, 9 SR, 10 GND, 11 DS0, 12 Cp, 13 IO1, 14 IO3, 15 IO5, 16 IO7, 17 Q7, 18 DS7, 19 S1, 20 VCC

## 74LS348
designator *  value 74LS348  Reference: U
8 to 3 lines Priority Encoder; ki_keywords: TTL ENCOD Arith; ki_fp_filters: DIP?16*; Datasheet: http://www.ti.com/lit/gpn/sn74LS348; Description_: 8 to 3 lines Priority Encoder
pins: 1 4, 2 5, 3 6, 4 7, 5 EI, 6 A2, 7 A1, 8 GND, 9 A0, 10 0, 11 1, 12 2, 13 3, 14 GS, 15 E0, 16 VCC

## 74LS352
designator *  value 74LS352  Reference: U
Dual 4 to 1 line Multiplexer; ki_keywords: TTL Mux MUX4; ki_fp_filters: DIP?16*; Datasheet: http://www.ti.com/lit/gpn/sn74LS352; Description_: Dual 4 to 1 line Multiplexer
pins: 1 Ea, 2 S1, 3 I3a, 4 I2a, 5 I1a, 6 I0a, 7 Za, 8 GND, 9 Zb, 10 I0b, 11 I1b, 12 I2b, 13 I3b, 14 S0, 15 Eb, 16 VCC

## 74LS353
designator *  value 74LS353  Reference: U
Dual 4 to 1 line Multiplexer, inverter; ki_keywords: TTL MUX MUX2; ki_fp_filters: DIP?16*; Datasheet: http://www.ti.com/lit/gpn/sn74LS353; Description_: Dual 4 to 1 line Multiplexer, inverter
pins: 1 OEa, 2 A1, 3 I3a, 4 I2a, 5 I1a, 6 I0a, 7 Za, 8 GND, 9 Zb, 10 I0b, 11 I1b, 12 I2b, 13 I3b, 14 A0, 15 OEb, 16 VCC

## 74LS365
designator *  value 74LS365  Reference: U
Hex Bus Driver, 3-State Outputs; ki_keywords: TTL Buffer BUS 3State; ki_fp_filters: DIP?16*; Datasheet: http://www.ti.com/lit/gpn/sn74LS365; Description_: Hex Bus Driver, 3-State Outputs
pins: 1 E1, 2 I1, 3 O1, 4 I2, 5 O2, 6 I3, 7 O3, 8 GND, 9 O4, 10 I4, 11 O5, 12 I5, 13 O6, 14 I6, 15 E2, 16 VCC

## 74LS366
designator *  value 74LS366  Reference: U
Hex Bus Driver inverter, 3-state outputs; ki_keywords: TTL Buffer BUS 3State; ki_fp_filters: DIP?16*; Datasheet: http://www.ti.com/lit/gpn/sn74LS366; Description_: Hex Bus Driver inverter, 3-state outputs
pins: 1 E1, 2 I1, 3 O1, 4 I2, 5 O2, 6 I3, 7 O3, 8 GND, 9 O4, 10 I4, 11 O5, 12 I5, 13 O6, 14 I6, 15 E2, 16 VCC

## 74LS367
designator *  value 74LS367  Reference: U
Hex Bus Driver 3-state outputs; ki_keywords: TTL Buffer BUS 3State; ki_fp_filters: DIP?16*; Datasheet: http://www.ti.com/lit/gpn/sn74LS367; Description_: Hex Bus Driver 3-state outputs
pins: 1 OEa, 2 I1, 3 O1a, 4 I2, 5 O2a, 6 I3, 7 O3a, 8 GND, 9 O4a, 10 I4, 11 O5b, 12 I5, 13 O6b, 14 I6, 15 OEb, 16 VCC

## 74LS368
designator *  value 74LS368  Reference: U
Hex Bus Driver inverter, 3-state outputs; ki_keywords: TTL Buffer BUS 3State; ki_fp_filters: DIP?16*; Datasheet: http://www.ti.com/lit/gpn/sn74LS368; Description_: Hex Bus Driver inverter, 3-state outputs
pins: 1 OEa, 2 I1, 3 O1a, 4 I2, 5 O2a, 6 I3, 7 O3a, 8 GND, 9 O4a, 10 I4, 11 O5b, 12 I5, 13 O6b, 14 I6, 15 OEb, 16 VCC

## 74LS373
designator *  value 74LS373  Reference: U
8-bit Latch, 3-state outputs; ki_keywords: TTL REG DFF DFF8 LATCH; ki_fp_filters: DIP?20* SOIC?20* SO?20* SSOP?20* TSSOP?20*; Datasheet: http://www.ti.com/lit/gpn/sn74LS373; Description_: 8-bit Latch, 3-state outputs
pins: 1 OE, 2 O0, 3 D0, 4 D1, 5 O1, 6 O2, 7 D2, 8 D3, 9 O3, 10 GND, 11 LE, 12 O4, 13 D4, 14 D5, 15 O5, 16 O6, 17 D6, 18 D7, 19 O7, 20 VCC

## 74LS374
designator *  value 74LS374  Reference: U
8-bit Register, 3-state outputs; ki_keywords: TTL DFF DFF8 REG 3State; ki_fp_filters: DIP?20* SOIC?20* SO?20*; Datasheet: http://www.ti.com/lit/gpn/sn74LS374; Description_: 8-bit Register, 3-state outputs
pins: 1 OE, 2 O0, 3 D0, 4 D1, 5 O1, 6 O2, 7 D2, 8 D3, 9 O3, 10 GND, 11 Cp, 12 O4, 13 D4, 14 D5, 15 O5, 16 O6, 17 D6, 18 D7, 19 O7, 20 VCC